# Altium integrated library Renesas Microcontroller M16C.IntLib: 423 symbols (part 11 of 30)
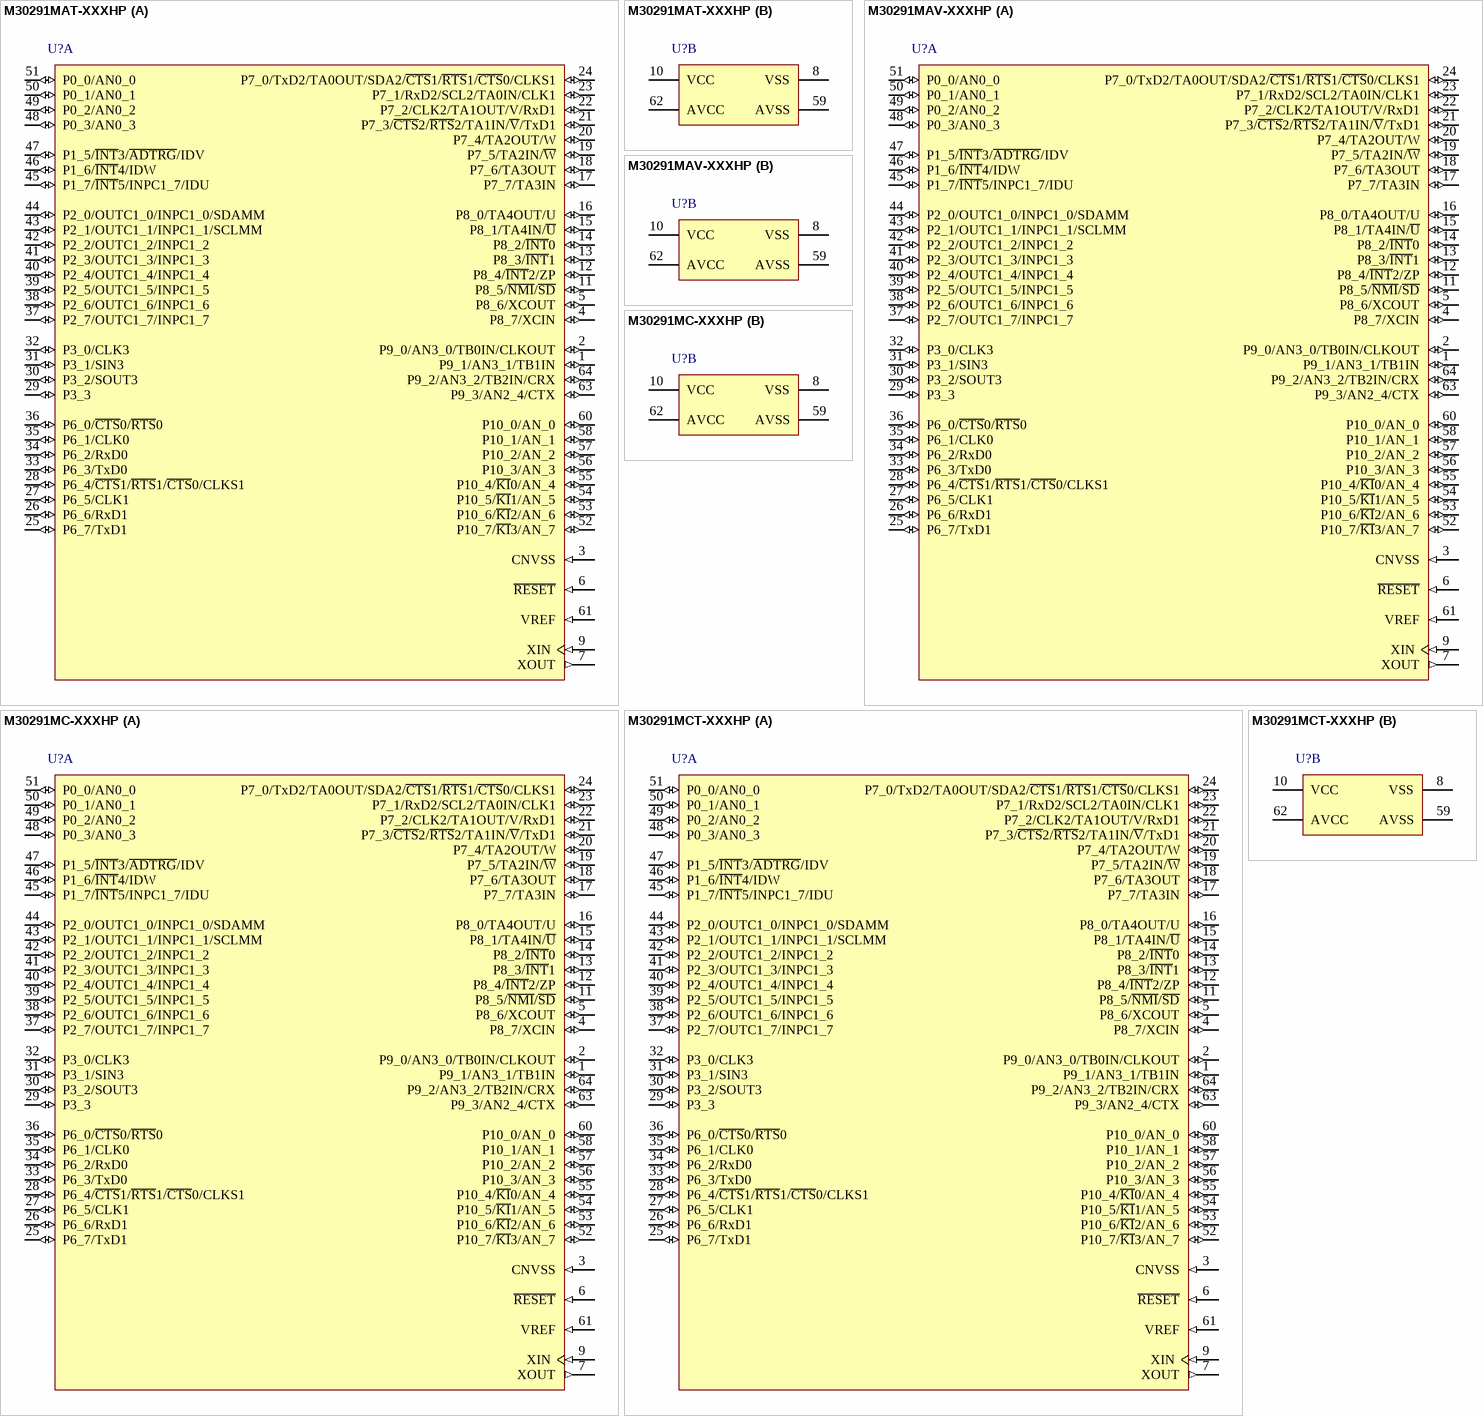
[diagram p196: symbols M30291MAT-XXXHP to M30291MCT-XXXHP]

## M30291MAT-XXXHP
designator U?
Mask ROM M16C/Tiny Series, 29 Group MCU, 96K ROM, 8K RAM, 64-pin QFP, Version T; Note: Set bits PACR2 to PACR0 in PACR register.  If PACR register isn't set up, input & output function of some pins disabled.; Published: 28-Aug-2009; DatasheetVersion: Rev.1.12, Mar-2007; PackageVersion: Sep-2005; PackageReference: PLQP0064KB-A; Publisher: Altium Limited; PackageDescription: 64-Pin Plastic Low Profile QFP, 10 x 10 x 1.4 mm Body, 0.5 mm Pitch; Code_JEITA: P-LQFP64-10x10-0.50; Code_IPC: SQFP50P1200X1200-64; ComponentLink1Description: Manufacturer Link; ComponentLink1URL: http://sg.renesas.com/fmwk.jsp?cnt=m16c_family_landing.jsp&fp=/products/mpumcu/m16c_family/; ComponentLink2Description: Datasheet; ComponentLink2URL: http://documentation.renesas.com/eng/products/mpumcu/rej09b0101_16c29hm.pdf; ComponentLink3Description: Packaging Specification; ComponentLink3URL: http://sg.renesas.com/media/products/common_info/package/pdf/ic/code/plqp0064kb_a.pdf
footprint PLQP0064KB-A_N (Shrink QFP, 64-Leads, Body 10x10mm, Pitch 0.5mm, IPC Medium Density)
footprint PLQP0064KB-A_L (Shrink QFP, 64-Leads, Body 10x10mm, Pitch 0.5mm, IPC High Density)
footprint PLQP0064KB-A_M (Shrink QFP, 64-Leads, Body 10x10mm, Pitch 0.5mm, IPC Low Density)
part A pins: 1 P9_1/AN3_1/TB1IN (io), 2 P9_0/AN3_0/TB0IN/CLKOUT (io), 3 CNVSS (in), 4 P8_7/XCIN (io), 5 P8_6/XCOUT (io), 6 ~{RESET} (in), 7 XOUT (out), 9 XIN (in), 11 P8_5/~{NMI}/~{SD} (io), 12 P8_4/~{INT}2/ZP (io), 13 P8_3/~{INT}1 (io), 14 P8_2/~{INT}0 (io), 15 P8_1/TA4IN/~{U} (io), 16 P8_0/TA4OUT/U (io), 17 P7_7/TA3IN (io), 18 P7_6/TA3OUT (io), 19 P7_5/TA2IN/~{W} (io), 20 P7_4/TA2OUT/W (io), 21 P7_3/~{CTS}2/~{RTS}2/TA1IN/~{V}/TxD1 (io), 22 P7_2/CLK2/TA1OUT/V/RxD1 (io), 23 P7_1/RxD2/SCL2/TA0IN/CLK1 (io), 24 P7_0/TxD2/TA0OUT/SDA2/~{CTS}1/~{RTS}1/~{CTS}0/CLKS1 (io), 25 P6_7/TxD1 (io), 26 P6_6/RxD1 (io), 27 P6_5/CLK1 (io), 28 P6_4/~{CTS}1/~{RTS}1/~{CTS}0/CLKS1 (io), 29 P3_3 (io), 30 P3_2/SOUT3 (io), 31 P3_1/SIN3 (io), 32 P3_0/CLK3 (io), 33 P6_3/TxD0 (io), 34 P6_2/RxD0 (io), 35 P6_1/CLK0 (io), 36 P6_0/~{CTS}0/~{RTS}0 (io), 37 P2_7/OUTC1_7/INPC1_7 (io), 38 P2_6/OUTC1_6/INPC1_6 (io), 39 P2_5/OUTC1_5/INPC1_5 (io), 40 P2_4/OUTC1_4/INPC1_4 (io), 41 P2_3/OUTC1_3/INPC1_3 (io), 42 P2_2/OUTC1_2/INPC1_2 (io), 43 P2_1/OUTC1_1/INPC1_1/SCLMM (io), 44 P2_0/OUTC1_0/INPC1_0/SDAMM (io), 45 P1_7/~{INT}5/INPC1_7/IDU (io), 46 P1_6/~{INT}4/IDW (io), 47 P1_5/~{INT}3/~{ADTRG}/IDV (io), 48 P0_3/AN0_3 (io), 49 P0_2/AN0_2 (io), 50 P0_1/AN0_1 (io), 51 P0_0/AN0_0 (io), 52 P10_7/~{KI}3/AN_7 (io), 53 P10_6/~{KI}2/AN_6 (io), 54 P10_5/~{KI}1/AN_5 (io), 55 P10_4/~{KI}0/AN_4 (io), 56 P10_3/AN_3 (io), 57 P10_2/AN_2 (io), 58 P10_1/AN_1 (io), 60 P10_0/AN_0 (io), 61 VREF (in), 63 P9_3/AN2_4/CTX (io), 64 P9_2/AN3_2/TB2IN/CRX (io)
part B pins: 8 VSS (power), 10 VCC (power), 59 AVSS (power), 62 AVCC (power)

## M30291MAV-XXXHP
designator U?
Mask ROM M16C/Tiny Series, 29 Group MCU, 96K ROM, 8K RAM, 64-pin QFP, Version V; Note: Set bits PACR2 to PACR0 in PACR register.  If PACR register isn't set up, input & output function of some pins disabled.; Published: 28-Aug-2009; DatasheetVersion: Rev.1.12, Mar-2007; PackageVersion: Sep-2005; PackageReference: PLQP0064KB-A; Publisher: Altium Limited; PackageDescription: 64-Pin Plastic Low Profile QFP, 10 x 10 x 1.4 mm Body, 0.5 mm Pitch; Code_JEITA: P-LQFP64-10x10-0.50; Code_IPC: SQFP50P1200X1200-64; ComponentLink1Description: Manufacturer Link; ComponentLink1URL: http://sg.renesas.com/fmwk.jsp?cnt=m16c_family_landing.jsp&fp=/products/mpumcu/m16c_family/; ComponentLink2Description: Datasheet; ComponentLink2URL: http://documentation.renesas.com/eng/products/mpumcu/rej09b0101_16c29hm.pdf; ComponentLink3Description: Packaging Specification; ComponentLink3URL: http://sg.renesas.com/media/products/common_info/package/pdf/ic/code/plqp0064kb_a.pdf
footprint PLQP0064KB-A_N (Shrink QFP, 64-Leads, Body 10x10mm, Pitch 0.5mm, IPC Medium Density)
footprint PLQP0064KB-A_L (Shrink QFP, 64-Leads, Body 10x10mm, Pitch 0.5mm, IPC High Density)
footprint PLQP0064KB-A_M (Shrink QFP, 64-Leads, Body 10x10mm, Pitch 0.5mm, IPC Low Density)
part A pins: 1 P9_1/AN3_1/TB1IN (io), 2 P9_0/AN3_0/TB0IN/CLKOUT (io), 3 CNVSS (in), 4 P8_7/XCIN (io), 5 P8_6/XCOUT (io), 6 ~{RESET} (in), 7 XOUT (out), 9 XIN (in), 11 P8_5/~{NMI}/~{SD} (io), 12 P8_4/~{INT}2/ZP (io), 13 P8_3/~{INT}1 (io), 14 P8_2/~{INT}0 (io), 15 P8_1/TA4IN/~{U} (io), 16 P8_0/TA4OUT/U (io), 17 P7_7/TA3IN (io), 18 P7_6/TA3OUT (io), 19 P7_5/TA2IN/~{W} (io), 20 P7_4/TA2OUT/W (io), 21 P7_3/~{CTS}2/~{RTS}2/TA1IN/~{V}/TxD1 (io), 22 P7_2/CLK2/TA1OUT/V/RxD1 (io), 23 P7_1/RxD2/SCL2/TA0IN/CLK1 (io), 24 P7_0/TxD2/TA0OUT/SDA2/~{CTS}1/~{RTS}1/~{CTS}0/CLKS1 (io), 25 P6_7/TxD1 (io), 26 P6_6/RxD1 (io), 27 P6_5/CLK1 (io), 28 P6_4/~{CTS}1/~{RTS}1/~{CTS}0/CLKS1 (io), 29 P3_3 (io), 30 P3_2/SOUT3 (io), 31 P3_1/SIN3 (io), 32 P3_0/CLK3 (io), 33 P6_3/TxD0 (io), 34 P6_2/RxD0 (io), 35 P6_1/CLK0 (io), 36 P6_0/~{CTS}0/~{RTS}0 (io), 37 P2_7/OUTC1_7/INPC1_7 (io), 38 P2_6/OUTC1_6/INPC1_6 (io), 39 P2_5/OUTC1_5/INPC1_5 (io), 40 P2_4/OUTC1_4/INPC1_4 (io), 41 P2_3/OUTC1_3/INPC1_3 (io), 42 P2_2/OUTC1_2/INPC1_2 (io), 43 P2_1/OUTC1_1/INPC1_1/SCLMM (io), 44 P2_0/OUTC1_0/INPC1_0/SDAMM (io), 45 P1_7/~{INT}5/INPC1_7/IDU (io), 46 P1_6/~{INT}4/IDW (io), 47 P1_5/~{INT}3/~{ADTRG}/IDV (io), 48 P0_3/AN0_3 (io), 49 P0_2/AN0_2 (io), 50 P0_1/AN0_1 (io), 51 P0_0/AN0_0 (io), 52 P10_7/~{KI}3/AN_7 (io), 53 P10_6/~{KI}2/AN_6 (io), 54 P10_5/~{KI}1/AN_5 (io), 55 P10_4/~{KI}0/AN_4 (io), 56 P10_3/AN_3 (io), 57 P10_2/AN_2 (io), 58 P10_1/AN_1 (io), 60 P10_0/AN_0 (io), 61 VREF (in), 63 P9_3/AN2_4/CTX (io), 64 P9_2/AN3_2/TB2IN/CRX (io)
part B pins: 8 VSS (power), 10 VCC (power), 59 AVSS (power), 62 AVCC (power)

## M30291MC-XXXHP
designator U?
Mask ROM M16C/Tiny Series, 29 Group MCU, 128K ROM, 12K RAM, 64-pin QFP; Note: Set bits PACR2 to PACR0 in PACR register.  If PACR register isn't set up, input & output function of some pins disabled.; Published: 28-Aug-2009; DatasheetVersion: Rev.1.12, Mar-2007; PackageVersion: Sep-2005; PackageReference: PLQP0064KB-A; Publisher: Altium Limited; PackageDescription: 64-Pin Plastic Low Profile QFP, 10 x 10 x 1.4 mm Body, 0.5 mm Pitch; Code_JEITA: P-LQFP64-10x10-0.50; Code_IPC: SQFP50P1200X1200-64; ComponentLink1Description: Manufacturer Link; ComponentLink1URL: http://sg.renesas.com/fmwk.jsp?cnt=m16c_family_landing.jsp&fp=/products/mpumcu/m16c_family/; ComponentLink2Description: Datasheet; ComponentLink2URL: http://documentation.renesas.com/eng/products/mpumcu/rej09b0101_16c29hm.pdf; ComponentLink3Description: Packaging Specification; ComponentLink3URL: http://sg.renesas.com/media/products/common_info/package/pdf/ic/code/plqp0064kb_a.pdf
footprint PLQP0064KB-A_N (Shrink QFP, 64-Leads, Body 10x10mm, Pitch 0.5mm, IPC Medium Density)
footprint PLQP0064KB-A_L (Shrink QFP, 64-Leads, Body 10x10mm, Pitch 0.5mm, IPC High Density)
footprint PLQP0064KB-A_M (Shrink QFP, 64-Leads, Body 10x10mm, Pitch 0.5mm, IPC Low Density)
part A pins: 1 P9_1/AN3_1/TB1IN (io), 2 P9_0/AN3_0/TB0IN/CLKOUT (io), 3 CNVSS (in), 4 P8_7/XCIN (io), 5 P8_6/XCOUT (io), 6 ~{RESET} (in), 7 XOUT (out), 9 XIN (in), 11 P8_5/~{NMI}/~{SD} (io), 12 P8_4/~{INT}2/ZP (io), 13 P8_3/~{INT}1 (io), 14 P8_2/~{INT}0 (io), 15 P8_1/TA4IN/~{U} (io), 16 P8_0/TA4OUT/U (io), 17 P7_7/TA3IN (io), 18 P7_6/TA3OUT (io), 19 P7_5/TA2IN/~{W} (io), 20 P7_4/TA2OUT/W (io), 21 P7_3/~{CTS}2/~{RTS}2/TA1IN/~{V}/TxD1 (io), 22 P7_2/CLK2/TA1OUT/V/RxD1 (io), 23 P7_1/RxD2/SCL2/TA0IN/CLK1 (io), 24 P7_0/TxD2/TA0OUT/SDA2/~{CTS}1/~{RTS}1/~{CTS}0/CLKS1 (io), 25 P6_7/TxD1 (io), 26 P6_6/RxD1 (io), 27 P6_5/CLK1 (io), 28 P6_4/~{CTS}1/~{RTS}1/~{CTS}0/CLKS1 (io), 29 P3_3 (io), 30 P3_2/SOUT3 (io), 31 P3_1/SIN3 (io), 32 P3_0/CLK3 (io), 33 P6_3/TxD0 (io), 34 P6_2/RxD0 (io), 35 P6_1/CLK0 (io), 36 P6_0/~{CTS}0/~{RTS}0 (io), 37 P2_7/OUTC1_7/INPC1_7 (io), 38 P2_6/OUTC1_6/INPC1_6 (io), 39 P2_5/OUTC1_5/INPC1_5 (io), 40 P2_4/OUTC1_4/INPC1_4 (io), 41 P2_3/OUTC1_3/INPC1_3 (io), 42 P2_2/OUTC1_2/INPC1_2 (io), 43 P2_1/OUTC1_1/INPC1_1/SCLMM (io), 44 P2_0/OUTC1_0/INPC1_0/SDAMM (io), 45 P1_7/~{INT}5/INPC1_7/IDU (io), 46 P1_6/~{INT}4/IDW (io), 47 P1_5/~{INT}3/~{ADTRG}/IDV (io), 48 P0_3/AN0_3 (io), 49 P0_2/AN0_2 (io), 50 P0_1/AN0_1 (io), 51 P0_0/AN0_0 (io), 52 P10_7/~{KI}3/AN_7 (io), 53 P10_6/~{KI}2/AN_6 (io), 54 P10_5/~{KI}1/AN_5 (io), 55 P10_4/~{KI}0/AN_4 (io), 56 P10_3/AN_3 (io), 57 P10_2/AN_2 (io), 58 P10_1/AN_1 (io), 60 P10_0/AN_0 (io), 61 VREF (in), 63 P9_3/AN2_4/CTX (io), 64 P9_2/AN3_2/TB2IN/CRX (io)
part B pins: 8 VSS (power), 10 VCC (power), 59 AVSS (power), 62 AVCC (power)

## M30291MCT-XXXHP
designator U?
Mask ROM M16C/Tiny Series, 29 Group MCU, 128K ROM, 12K RAM, 64-pin QFP, Version T; Note: Set bits PACR2 to PACR0 in PACR register.  If PACR register isn't set up, input & output function of some pins disabled.; Published: 28-Aug-2009; DatasheetVersion: Rev.1.12, Mar-2007; PackageVersion: Sep-2005; PackageReference: PLQP0064KB-A; Publisher: Altium Limited; PackageDescription: 64-Pin Plastic Low Profile QFP, 10 x 10 x 1.4 mm Body, 0.5 mm Pitch; Code_JEITA: P-LQFP64-10x10-0.50; Code_IPC: SQFP50P1200X1200-64; ComponentLink1Description: Manufacturer Link; ComponentLink1URL: http://sg.renesas.com/fmwk.jsp?cnt=m16c_family_landing.jsp&fp=/products/mpumcu/m16c_family/; ComponentLink2Description: Datasheet; ComponentLink2URL: http://documentation.renesas.com/eng/products/mpumcu/rej09b0101_16c29hm.pdf; ComponentLink3Description: Packaging Specification; ComponentLink3URL: http://sg.renesas.com/media/products/common_info/package/pdf/ic/code/plqp0064kb_a.pdf
footprint PLQP0064KB-A_N (Shrink QFP, 64-Leads, Body 10x10mm, Pitch 0.5mm, IPC Medium Density)
footprint PLQP0064KB-A_L (Shrink QFP, 64-Leads, Body 10x10mm, Pitch 0.5mm, IPC High Density)
footprint PLQP0064KB-A_M (Shrink QFP, 64-Leads, Body 10x10mm, Pitch 0.5mm, IPC Low Density)
part A pins: 1 P9_1/AN3_1/TB1IN (io), 2 P9_0/AN3_0/TB0IN/CLKOUT (io), 3 CNVSS (in), 4 P8_7/XCIN (io), 5 P8_6/XCOUT (io), 6 ~{RESET} (in), 7 XOUT (out), 9 XIN (in), 11 P8_5/~{NMI}/~{SD} (io), 12 P8_4/~{INT}2/ZP (io), 13 P8_3/~{INT}1 (io), 14 P8_2/~{INT}0 (io), 15 P8_1/TA4IN/~{U} (io), 16 P8_0/TA4OUT/U (io), 17 P7_7/TA3IN (io), 18 P7_6/TA3OUT (io), 19 P7_5/TA2IN/~{W} (io), 20 P7_4/TA2OUT/W (io), 21 P7_3/~{CTS}2/~{RTS}2/TA1IN/~{V}/TxD1 (io), 22 P7_2/CLK2/TA1OUT/V/RxD1 (io), 23 P7_1/RxD2/SCL2/TA0IN/CLK1 (io), 24 P7_0/TxD2/TA0OUT/SDA2/~{CTS}1/~{RTS}1/~{CTS}0/CLKS1 (io), 25 P6_7/TxD1 (io), 26 P6_6/RxD1 (io), 27 P6_5/CLK1 (io), 28 P6_4/~{CTS}1/~{RTS}1/~{CTS}0/CLKS1 (io), 29 P3_3 (io), 30 P3_2/SOUT3 (io), 31 P3_1/SIN3 (io), 32 P3_0/CLK3 (io), 33 P6_3/TxD0 (io), 34 P6_2/RxD0 (io), 35 P6_1/CLK0 (io), 36 P6_0/~{CTS}0/~{RTS}0 (io), 37 P2_7/OUTC1_7/INPC1_7 (io), 38 P2_6/OUTC1_6/INPC1_6 (io), 39 P2_5/OUTC1_5/INPC1_5 (io), 40 P2_4/OUTC1_4/INPC1_4 (io), 41 P2_3/OUTC1_3/INPC1_3 (io), 42 P2_2/OUTC1_2/INPC1_2 (io), 43 P2_1/OUTC1_1/INPC1_1/SCLMM (io), 44 P2_0/OUTC1_0/INPC1_0/SDAMM (io), 45 P1_7/~{INT}5/INPC1_7/IDU (io), 46 P1_6/~{INT}4/IDW (io), 47 P1_5/~{INT}3/~{ADTRG}/IDV (io), 48 P0_3/AN0_3 (io), 49 P0_2/AN0_2 (io), 50 P0_1/AN0_1 (io), 51 P0_0/AN0_0 (io), 52 P10_7/~{KI}3/AN_7 (io), 53 P10_6/~{KI}2/AN_6 (io), 54 P10_5/~{KI}1/AN_5 (io), 55 P10_4/~{KI}0/AN_4 (io), 56 P10_3/AN_3 (io), 57 P10_2/AN_2 (io), 58 P10_1/AN_1 (io), 60 P10_0/AN_0 (io), 61 VREF (in), 63 P9_3/AN2_4/CTX (io), 64 P9_2/AN3_2/TB2IN/CRX (io)
part B pins: 8 VSS (power), 10 VCC (power), 59 AVSS (power), 62 AVCC (power)

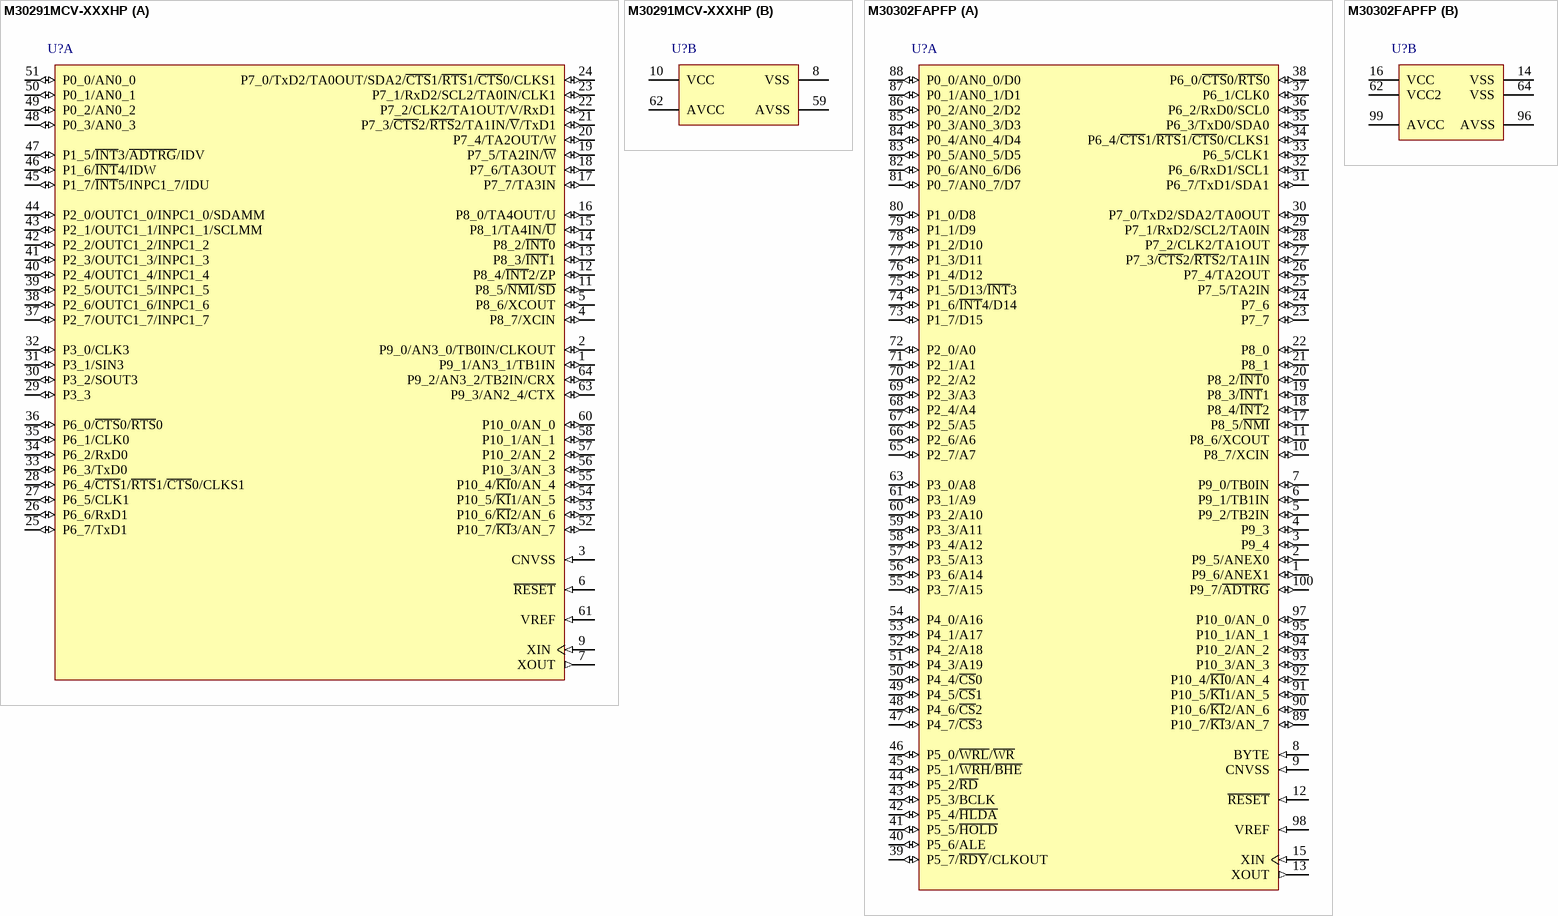
[diagram p57: symbols M30291MCV-XXXHP to M30302FAPFP]

## M30291MCV-XXXHP
designator U?
Mask ROM M16C/Tiny Series, 29 Group MCU, 128K ROM, 12K RAM, 64-pin QFP, Version V; Note: Set bits PACR2 to PACR0 in PACR register.  If PACR register isn't set up, input & output function of some pins disabled.; Published: 28-Aug-2009; DatasheetVersion: Rev.1.12, Mar-2007; PackageVersion: Sep-2005; PackageReference: PLQP0064KB-A; Publisher: Altium Limited; PackageDescription: 64-Pin Plastic Low Profile QFP, 10 x 10 x 1.4 mm Body, 0.5 mm Pitch; Code_JEITA: P-LQFP64-10x10-0.50; Code_IPC: SQFP50P1200X1200-64; ComponentLink1Description: Manufacturer Link; ComponentLink1URL: http://sg.renesas.com/fmwk.jsp?cnt=m16c_family_landing.jsp&fp=/products/mpumcu/m16c_family/; ComponentLink2Description: Datasheet; ComponentLink2URL: http://documentation.renesas.com/eng/products/mpumcu/rej09b0101_16c29hm.pdf; ComponentLink3Description: Packaging Specification; ComponentLink3URL: http://sg.renesas.com/media/products/common_info/package/pdf/ic/code/plqp0064kb_a.pdf
footprint PLQP0064KB-A_N (Shrink QFP, 64-Leads, Body 10x10mm, Pitch 0.5mm, IPC Medium Density)
footprint PLQP0064KB-A_L (Shrink QFP, 64-Leads, Body 10x10mm, Pitch 0.5mm, IPC High Density)
footprint PLQP0064KB-A_M (Shrink QFP, 64-Leads, Body 10x10mm, Pitch 0.5mm, IPC Low Density)
part A pins: 1 P9_1/AN3_1/TB1IN (io), 2 P9_0/AN3_0/TB0IN/CLKOUT (io), 3 CNVSS (in), 4 P8_7/XCIN (io), 5 P8_6/XCOUT (io), 6 ~{RESET} (in), 7 XOUT (out), 9 XIN (in), 11 P8_5/~{NMI}/~{SD} (io), 12 P8_4/~{INT}2/ZP (io), 13 P8_3/~{INT}1 (io), 14 P8_2/~{INT}0 (io), 15 P8_1/TA4IN/~{U} (io), 16 P8_0/TA4OUT/U (io), 17 P7_7/TA3IN (io), 18 P7_6/TA3OUT (io), 19 P7_5/TA2IN/~{W} (io), 20 P7_4/TA2OUT/W (io), 21 P7_3/~{CTS}2/~{RTS}2/TA1IN/~{V}/TxD1 (io), 22 P7_2/CLK2/TA1OUT/V/RxD1 (io), 23 P7_1/RxD2/SCL2/TA0IN/CLK1 (io), 24 P7_0/TxD2/TA0OUT/SDA2/~{CTS}1/~{RTS}1/~{CTS}0/CLKS1 (io), 25 P6_7/TxD1 (io), 26 P6_6/RxD1 (io), 27 P6_5/CLK1 (io), 28 P6_4/~{CTS}1/~{RTS}1/~{CTS}0/CLKS1 (io), 29 P3_3 (io), 30 P3_2/SOUT3 (io), 31 P3_1/SIN3 (io), 32 P3_0/CLK3 (io), 33 P6_3/TxD0 (io), 34 P6_2/RxD0 (io), 35 P6_1/CLK0 (io), 36 P6_0/~{CTS}0/~{RTS}0 (io), 37 P2_7/OUTC1_7/INPC1_7 (io), 38 P2_6/OUTC1_6/INPC1_6 (io), 39 P2_5/OUTC1_5/INPC1_5 (io), 40 P2_4/OUTC1_4/INPC1_4 (io), 41 P2_3/OUTC1_3/INPC1_3 (io), 42 P2_2/OUTC1_2/INPC1_2 (io), 43 P2_1/OUTC1_1/INPC1_1/SCLMM (io), 44 P2_0/OUTC1_0/INPC1_0/SDAMM (io), 45 P1_7/~{INT}5/INPC1_7/IDU (io), 46 P1_6/~{INT}4/IDW (io), 47 P1_5/~{INT}3/~{ADTRG}/IDV (io), 48 P0_3/AN0_3 (io), 49 P0_2/AN0_2 (io), 50 P0_1/AN0_1 (io), 51 P0_0/AN0_0 (io), 52 P10_7/~{KI}3/AN_7 (io), 53 P10_6/~{KI}2/AN_6 (io), 54 P10_5/~{KI}1/AN_5 (io), 55 P10_4/~{KI}0/AN_4 (io), 56 P10_3/AN_3 (io), 57 P10_2/AN_2 (io), 58 P10_1/AN_1 (io), 60 P10_0/AN_0 (io), 61 VREF (in), 63 P9_3/AN2_4/CTX (io), 64 P9_2/AN3_2/TB2IN/CRX (io)
part B pins: 8 VSS (power), 10 VCC (power), 59 AVSS (power), 62 AVCC (power)

## M30302FAPFP
designator U?
Flash Memory M16C/30 Series, 30P Group MCU, 96K + 4K ROM, 5K RAM, 100-pin RQFP; Published: 28-Aug-2009; DatasheetVersion: Rev.1.22, Mar-2007; PackageVersion: Sep-2005; PackageReference: PRQP0100JB-A; Publisher: Altium Limited; PackageDescription: 100-Pin Plastic Quad Flat Pack, 20 x 14 x 2.8 mm Body, 0.65 mm Pitch; Code_JEITA: P-QFP100-14x20-0.65; ComponentLink1Description: Manufacturer Link; ComponentLink1URL: http://sg.renesas.com/fmwk.jsp?cnt=m16c_family_landing.jsp&fp=/products/mpumcu/m16c_family/; ComponentLink2Description: Datasheet; ComponentLink2URL: http://documentation.renesas.com/eng/products/mpumcu/rej09b0179_16c30phm.pdf; ComponentLink3Description: Packaging Specification; ComponentLink3URL: http://sg.renesas.com/media/products/common_info/package/pdf/ic/code/prqp0100jb_a.pdf
footprint PRQP0100JB-A_N (QFP, 100-Leads, Body 20x14mm, Pitch 0.65mm, IPC Medium Density)
footprint PRQP0100JB-A_L (QFP, 100-Leads, Body 20x14mm, Pitch 0.65mm, IPC High Density)
footprint PRQP0100JB-A_M (QFP, 100-Leads, Body 20x14mm, Pitch 0.65mm, IPC Low Density)
part A pins: 1 P9_6/ANEX1 (io), 2 P9_5/ANEX0 (io), 3 P9_4 (io), 4 P9_3 (io), 5 P9_2/TB2IN (io), 6 P9_1/TB1IN (io), 7 P9_0/TB0IN (io), 8 BYTE (in), 9 CNVSS (in), 10 P8_7/XCIN (io), 11 P8_6/XCOUT (io), 12 ~{RESET} (in), 13 XOUT (out), 15 XIN (in), 17 P8_5/~{NMI} (io), 18 P8_4/~{INT}2 (io), 19 P8_3/~{INT}1 (io), 20 P8_2/~{INT}0 (io), 21 P8_1 (io), 22 P8_0 (io), 23 P7_7 (io), 24 P7_6 (io), 25 P7_5/TA2IN (io), 26 P7_4/TA2OUT (io), 27 P7_3/~{CTS}2/~{RTS}2/TA1IN (io), 28 P7_2/CLK2/TA1OUT (io), 29 P7_1/RxD2/SCL2/TA0IN (io), 30 P7_0/TxD2/SDA2/TA0OUT (io), 31 P6_7/TxD1/SDA1 (io), 32 P6_6/RxD1/SCL1 (io), 33 P6_5/CLK1 (io), 34 P6_4/~{CTS}1/~{RTS}1/~{CTS}0/CLKS1 (io), 35 P6_3/TxD0/SDA0 (io), 36 P6_2/RxD0/SCL0 (io), 37 P6_1/CLK0 (io), 38 P6_0/~{CTS}0/~{RTS}0 (io), 39 P5_7/~{RDY}/CLKOUT (io), 40 P5_6/ALE (io), 41 P5_5/~{HOLD} (io), 42 P5_4/~{HLDA} (io), 43 P5_3/BCLK (io), 44 P5_2/~{RD} (io), 45 P5_1/~{WRH}/~{BHE} (io), 46 P5_0/~{WRL}/~{WR} (io), 47 P4_7/~{CS}3 (io), 48 P4_6/~{CS}2 (io), 49 P4_5/~{CS}1 (io), 50 P4_4/~{CS}0 (io), 51 P4_3/A19 (io), 52 P4_2/A18 (io), 53 P4_1/A17 (io), 54 P4_0/A16 (io), 55 P3_7/A15 (io), 56 P3_6/A14 (io), 57 P3_5/A13 (io), 58 P3_4/A12 (io), 59 P3_3/A11 (io), 60 P3_2/A10 (io), 61 P3_1/A9 (io), 63 P3_0/A8 (io), 65 P2_7/A7 (io), 66 P2_6/A6 (io), 67 P2_5/A5 (io), 68 P2_4/A4 (io), 69 P2_3/A3 (io), 70 P2_2/A2 (io), 71 P2_1/A1 (io), 72 P2_0/A0 (io), 73 P1_7/D15 (io), 74 P1_6/~{INT}4/D14 (io), 75 P1_5/D13/~{INT}3 (io), 76 P1_4/D12 (io), 77 P1_3/D11 (io), 78 P1_2/D10 (io), 79 P1_1/D9 (io), 80 P1_0/D8 (io), 81 P0_7/AN0_7/D7 (io), 82 P0_6/AN0_6/D6 (io), 83 P0_5/AN0_5/D5 (io), 84 P0_4/AN0_4/D4 (io), 85 P0_3/AN0_3/D3 (io), 86 P0_2/AN0_2/D2 (io), 87 P0_1/AN0_1/D1 (io), 88 P0_0/AN0_0/D0 (io), 89 P10_7/~{KI}3/AN_7 (io), 90 P10_6/~{KI}2/AN_6 (io), 91 P10_5/~{KI}1/AN_5 (io), 92 P10_4/~{KI}0/AN_4 (io), 93 P10_3/AN_3 (io), 94 P10_2/AN_2 (io), 95 P10_1/AN_1 (io), 97 P10_0/AN_0 (io), 98 VREF (in), 100 P9_7/~{ADTRG} (io)
part B pins: 14 VSS (power), 16 VCC (power), 62 VCC2 (power), 64 VSS (power), 96 AVSS (power), 99 AVCC (power)

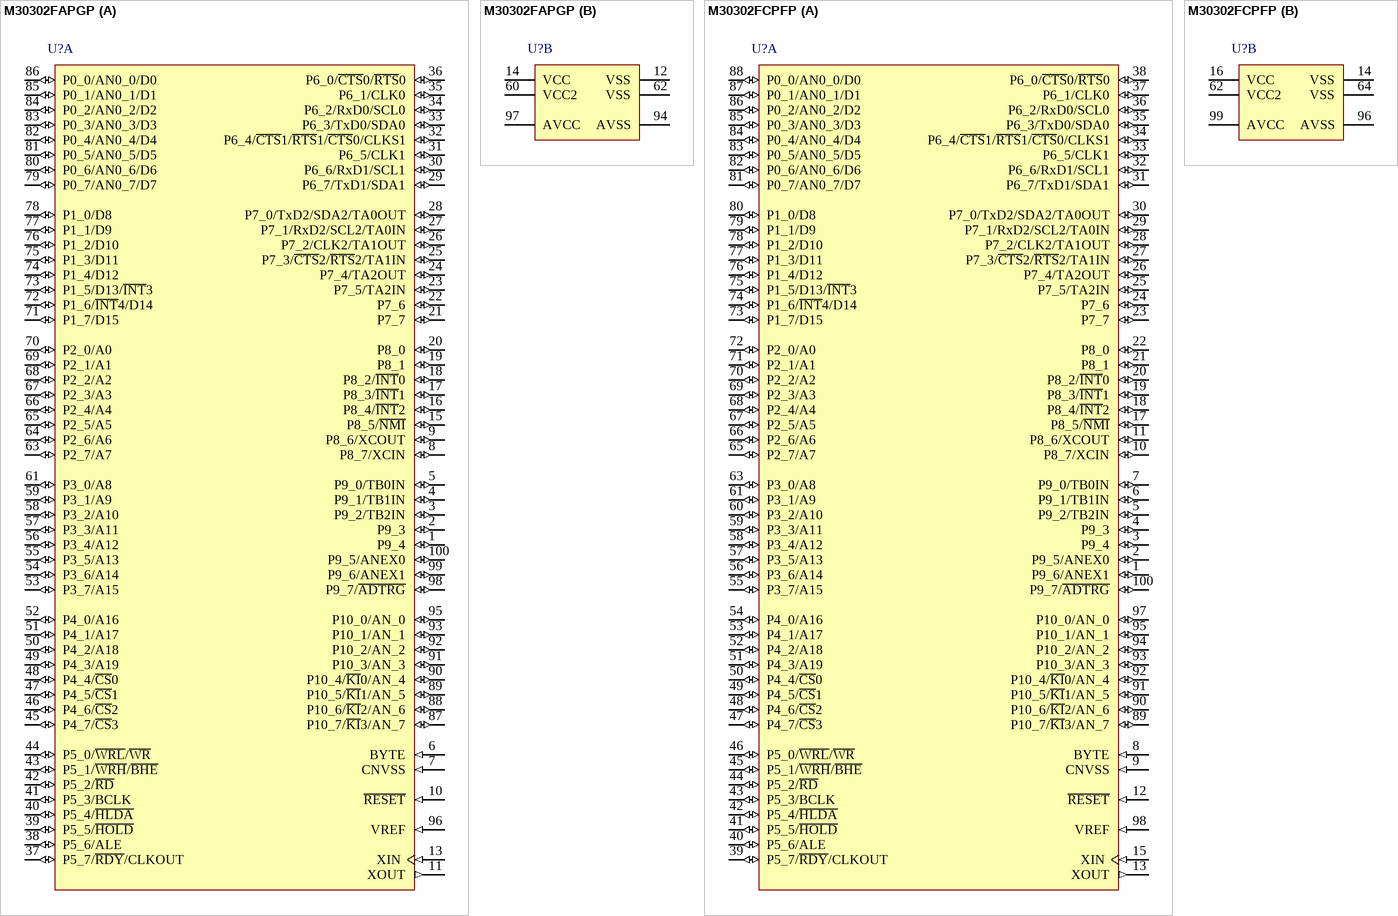
[diagram p58: symbols M30302FAPGP to M30302FCPFP]

## M30302FAPGP
designator U?
Flash Memory M16C/30 Series, 30P Group MCU, 96K + 4K ROM, 5K RAM, 100-pin LQFP; Published: 28-Aug-2009; DatasheetVersion: Rev.1.22, Mar-2007; PackageVersion: Sep-2005; PackageReference: PLQP0100KB-A; Publisher: Altium Limited; PackageDescription: 100-Pin Plastic Low Profile QFP, 14 x 14 x 1.4 mm Body, 0.5 mm Pitch; Code_JEITA: P-LQFP100-14x14-0.50; Code_IPC: SQFP50P1600X1600-100; ComponentLink1Description: Manufacturer Link; ComponentLink1URL: http://sg.renesas.com/fmwk.jsp?cnt=m16c_family_landing.jsp&fp=/products/mpumcu/m16c_family/; ComponentLink2Description: Datasheet; ComponentLink2URL: http://documentation.renesas.com/eng/products/mpumcu/rej09b0179_16c30phm.pdf; ComponentLink3Description: Packaging Specification; ComponentLink3URL: http://sg.renesas.com/media/products/common_info/package/pdf/ic/code/plqp0100kb_a.pdf
footprint PLQP0100KB-A_N (Shrink QFP, 100-Leads, Body 14x14mm, Pitch 0.5mm, IPC Medium Density)
footprint PLQP0100KB-A_L (Shrink QFP, 100-Leads, Body 14x14mm, Pitch 0.5mm, IPC High Density)
footprint PLQP0100KB-A_M (Shrink QFP, 100-Leads, Body 14x14mm, Pitch 0.5mm, IPC Low Density)
part A pins: 1 P9_4 (io), 2 P9_3 (io), 3 P9_2/TB2IN (io), 4 P9_1/TB1IN (io), 5 P9_0/TB0IN (io), 6 BYTE (in), 7 CNVSS (in), 8 P8_7/XCIN (io), 9 P8_6/XCOUT (io), 10 ~{RESET} (in), 11 XOUT (out), 13 XIN (in), 15 P8_5/~{NMI} (io), 16 P8_4/~{INT}2 (io), 17 P8_3/~{INT}1 (io), 18 P8_2/~{INT}0 (io), 19 P8_1 (io), 20 P8_0 (io), 21 P7_7 (io), 22 P7_6 (io), 23 P7_5/TA2IN (io), 24 P7_4/TA2OUT (io), 25 P7_3/~{CTS}2/~{RTS}2/TA1IN (io), 26 P7_2/CLK2/TA1OUT (io), 27 P7_1/RxD2/SCL2/TA0IN (io), 28 P7_0/TxD2/SDA2/TA0OUT (io), 29 P6_7/TxD1/SDA1 (io), 30 P6_6/RxD1/SCL1 (io), 31 P6_5/CLK1 (io), 32 P6_4/~{CTS}1/~{RTS}1/~{CTS}0/CLKS1 (io), 33 P6_3/TxD0/SDA0 (io), 34 P6_2/RxD0/SCL0 (io), 35 P6_1/CLK0 (io), 36 P6_0/~{CTS}0/~{RTS}0 (io), 37 P5_7/~{RDY}/CLKOUT (io), 38 P5_6/ALE (io), 39 P5_5/~{HOLD} (io), 40 P5_4/~{HLDA} (io), 41 P5_3/BCLK (io), 42 P5_2/~{RD} (io), 43 P5_1/~{WRH}/~{BHE} (io), 44 P5_0/~{WRL}/~{WR} (io), 45 P4_7/~{CS}3 (io), 46 P4_6/~{CS}2 (io), 47 P4_5/~{CS}1 (io), 48 P4_4/~{CS}0 (io), 49 P4_3/A19 (io), 50 P4_2/A18 (io), 51 P4_1/A17 (io), 52 P4_0/A16 (io), 53 P3_7/A15 (io), 54 P3_6/A14 (io), 55 P3_5/A13 (io), 56 P3_4/A12 (io), 57 P3_3/A11 (io), 58 P3_2/A10 (io), 59 P3_1/A9 (io), 61 P3_0/A8 (io), 63 P2_7/A7 (io), 64 P2_6/A6 (io), 65 P2_5/A5 (io), 66 P2_4/A4 (io), 67 P2_3/A3 (io), 68 P2_2/A2 (io), 69 P2_1/A1 (io), 70 P2_0/A0 (io), 71 P1_7/D15 (io), 72 P1_6/~{INT}4/D14 (io), 73 P1_5/D13/~{INT}3 (io), 74 P1_4/D12 (io), 75 P1_3/D11 (io), 76 P1_2/D10 (io), 77 P1_1/D9 (io), 78 P1_0/D8 (io), 79 P0_7/AN0_7/D7 (io), 80 P0_6/AN0_6/D6 (io), 81 P0_5/AN0_5/D5 (io), 82 P0_4/AN0_4/D4 (io), 83 P0_3/AN0_3/D3 (io), 84 P0_2/AN0_2/D2 (io), 85 P0_1/AN0_1/D1 (io), 86 P0_0/AN0_0/D0 (io), 87 P10_7/~{KI}3/AN_7 (io), 88 P10_6/~{KI}2/AN_6 (io), 89 P10_5/~{KI}1/AN_5 (io), 90 P10_4/~{KI}0/AN_4 (io), 91 P10_3/AN_3 (io), 92 P10_2/AN_2 (io), 93 P10_1/AN_1 (io), 95 P10_0/AN_0 (io), 96 VREF (in), 98 P9_7/~{ADTRG} (io), 99 P9_6/ANEX1 (io), 100 P9_5/ANEX0 (io)
part B pins: 12 VSS (power), 14 VCC (power), 60 VCC2 (power), 62 VSS (power), 94 AVSS (power), 97 AVCC (power)

## M30302FCPFP
designator U?
Flash Memory M16C/30 Series, 30P Group MCU, 128K + 4K ROM, 5K RAM, 100-pin RQFP; Published: 28-Aug-2009; DatasheetVersion: Rev.1.22, Mar-2007; PackageVersion: Sep-2005; PackageReference: PRQP0100JB-A; Publisher: Altium Limited; PackageDescription: 100-Pin Plastic Quad Flat Pack, 20 x 14 x 2.8 mm Body, 0.65 mm Pitch; Code_JEITA: P-QFP100-14x20-0.65; ComponentLink1Description: Manufacturer Link; ComponentLink1URL: http://sg.renesas.com/fmwk.jsp?cnt=m16c_family_landing.jsp&fp=/products/mpumcu/m16c_family/; ComponentLink2Description: Datasheet; ComponentLink2URL: http://documentation.renesas.com/eng/products/mpumcu/rej09b0179_16c30phm.pdf; ComponentLink3Description: Packaging Specification; ComponentLink3URL: http://sg.renesas.com/media/products/common_info/package/pdf/ic/code/prqp0100jb_a.pdf
footprint PRQP0100JB-A_N (QFP, 100-Leads, Body 20x14mm, Pitch 0.65mm, IPC Medium Density)
footprint PRQP0100JB-A_L (QFP, 100-Leads, Body 20x14mm, Pitch 0.65mm, IPC High Density)
footprint PRQP0100JB-A_M (QFP, 100-Leads, Body 20x14mm, Pitch 0.65mm, IPC Low Density)
part A pins: 1 P9_6/ANEX1 (io), 2 P9_5/ANEX0 (io), 3 P9_4 (io), 4 P9_3 (io), 5 P9_2/TB2IN (io), 6 P9_1/TB1IN (io), 7 P9_0/TB0IN (io), 8 BYTE (in), 9 CNVSS (in), 10 P8_7/XCIN (io), 11 P8_6/XCOUT (io), 12 ~{RESET} (in), 13 XOUT (out), 15 XIN (in), 17 P8_5/~{NMI} (io), 18 P8_4/~{INT}2 (io), 19 P8_3/~{INT}1 (io), 20 P8_2/~{INT}0 (io), 21 P8_1 (io), 22 P8_0 (io), 23 P7_7 (io), 24 P7_6 (io), 25 P7_5/TA2IN (io), 26 P7_4/TA2OUT (io), 27 P7_3/~{CTS}2/~{RTS}2/TA1IN (io), 28 P7_2/CLK2/TA1OUT (io), 29 P7_1/RxD2/SCL2/TA0IN (io), 30 P7_0/TxD2/SDA2/TA0OUT (io), 31 P6_7/TxD1/SDA1 (io), 32 P6_6/RxD1/SCL1 (io), 33 P6_5/CLK1 (io), 34 P6_4/~{CTS}1/~{RTS}1/~{CTS}0/CLKS1 (io), 35 P6_3/TxD0/SDA0 (io), 36 P6_2/RxD0/SCL0 (io), 37 P6_1/CLK0 (io), 38 P6_0/~{CTS}0/~{RTS}0 (io), 39 P5_7/~{RDY}/CLKOUT (io), 40 P5_6/ALE (io), 41 P5_5/~{HOLD} (io), 42 P5_4/~{HLDA} (io), 43 P5_3/BCLK (io), 44 P5_2/~{RD} (io), 45 P5_1/~{WRH}/~{BHE} (io), 46 P5_0/~{WRL}/~{WR} (io), 47 P4_7/~{CS}3 (io), 48 P4_6/~{CS}2 (io), 49 P4_5/~{CS}1 (io), 50 P4_4/~{CS}0 (io), 51 P4_3/A19 (io), 52 P4_2/A18 (io), 53 P4_1/A17 (io), 54 P4_0/A16 (io), 55 P3_7/A15 (io), 56 P3_6/A14 (io), 57 P3_5/A13 (io), 58 P3_4/A12 (io), 59 P3_3/A11 (io), 60 P3_2/A10 (io), 61 P3_1/A9 (io), 63 P3_0/A8 (io), 65 P2_7/A7 (io), 66 P2_6/A6 (io), 67 P2_5/A5 (io), 68 P2_4/A4 (io), 69 P2_3/A3 (io), 70 P2_2/A2 (io), 71 P2_1/A1 (io), 72 P2_0/A0 (io), 73 P1_7/D15 (io), 74 P1_6/~{INT}4/D14 (io), 75 P1_5/D13/~{INT}3 (io), 76 P1_4/D12 (io), 77 P1_3/D11 (io), 78 P1_2/D10 (io), 79 P1_1/D9 (io), 80 P1_0/D8 (io), 81 P0_7/AN0_7/D7 (io), 82 P0_6/AN0_6/D6 (io), 83 P0_5/AN0_5/D5 (io), 84 P0_4/AN0_4/D4 (io), 85 P0_3/AN0_3/D3 (io), 86 P0_2/AN0_2/D2 (io), 87 P0_1/AN0_1/D1 (io), 88 P0_0/AN0_0/D0 (io), 89 P10_7/~{KI}3/AN_7 (io), 90 P10_6/~{KI}2/AN_6 (io), 91 P10_5/~{KI}1/AN_5 (io), 92 P10_4/~{KI}0/AN_4 (io), 93 P10_3/AN_3 (io), 94 P10_2/AN_2 (io), 95 P10_1/AN_1 (io), 97 P10_0/AN_0 (io), 98 VREF (in), 100 P9_7/~{ADTRG} (io)
part B pins: 14 VSS (power), 16 VCC (power), 62 VCC2 (power), 64 VSS (power), 96 AVSS (power), 99 AVCC (power)

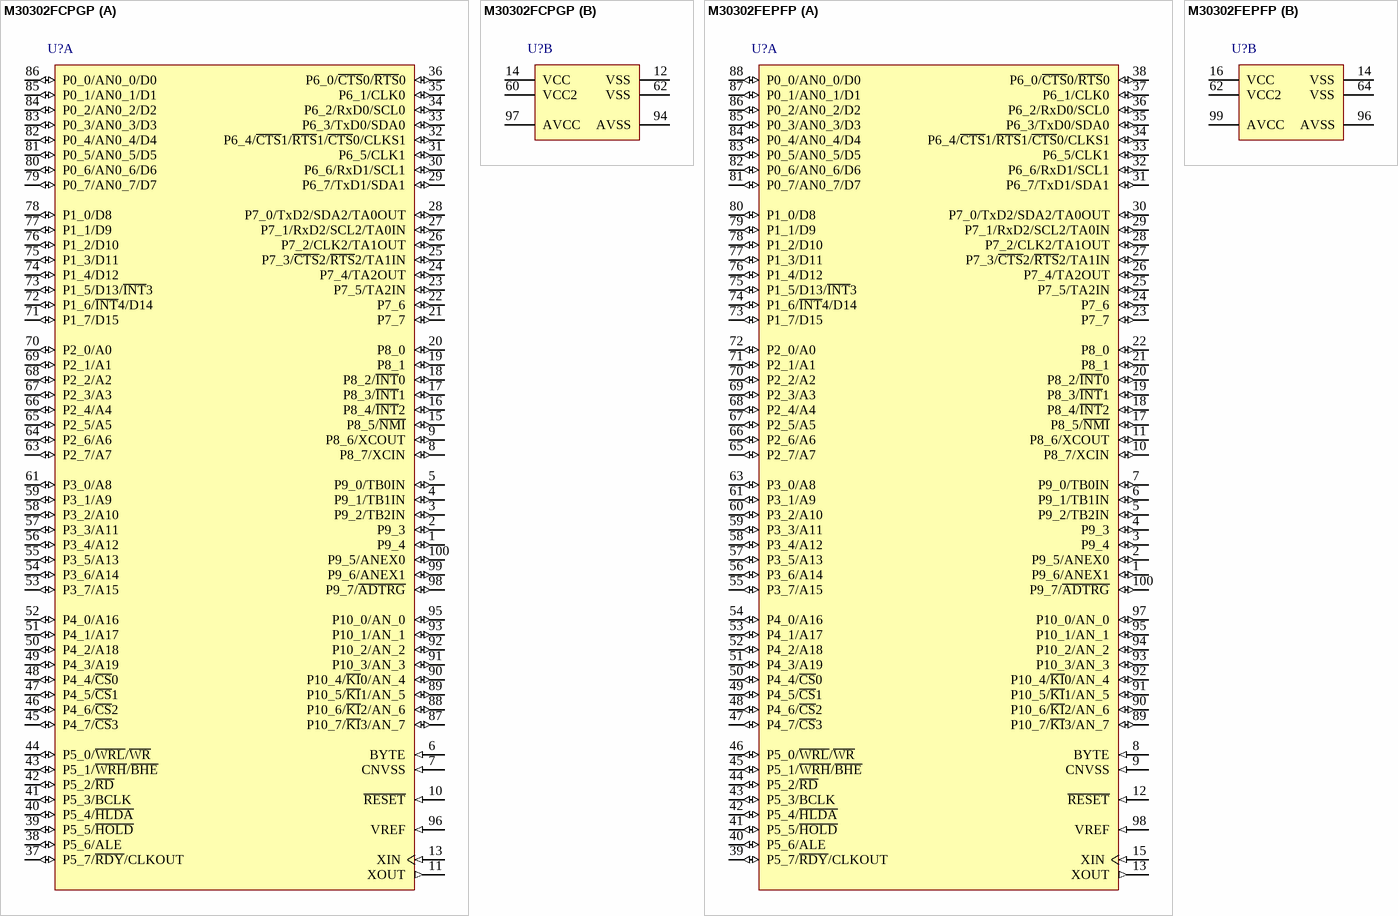
[diagram p59: symbols M30302FCPGP to M30302FEPFP]

## M30302FCPGP
designator U?
Flash Memory M16C/30 Series, 30P Group MCU, 128K + 4K ROM, 5K RAM, 100-pin LQFP; Published: 28-Aug-2009; DatasheetVersion: Rev.1.22, Mar-2007; PackageVersion: Sep-2005; PackageReference: PLQP0100KB-A; Publisher: Altium Limited; PackageDescription: 100-Pin Plastic Low Profile QFP, 14 x 14 x 1.4 mm Body, 0.5 mm Pitch; Code_JEITA: P-LQFP100-14x14-0.50; Code_IPC: SQFP50P1600X1600-100; ComponentLink1Description: Manufacturer Link; ComponentLink1URL: http://sg.renesas.com/fmwk.jsp?cnt=m16c_family_landing.jsp&fp=/products/mpumcu/m16c_family/; ComponentLink2Description: Datasheet; ComponentLink2URL: http://documentation.renesas.com/eng/products/mpumcu/rej09b0179_16c30phm.pdf; ComponentLink3Description: Packaging Specification; ComponentLink3URL: http://sg.renesas.com/media/products/common_info/package/pdf/ic/code/plqp0100kb_a.pdf
footprint PLQP0100KB-A_N (Shrink QFP, 100-Leads, Body 14x14mm, Pitch 0.5mm, IPC Medium Density)
footprint PLQP0100KB-A_L (Shrink QFP, 100-Leads, Body 14x14mm, Pitch 0.5mm, IPC High Density)
footprint PLQP0100KB-A_M (Shrink QFP, 100-Leads, Body 14x14mm, Pitch 0.5mm, IPC Low Density)
part A pins: 1 P9_4 (io), 2 P9_3 (io), 3 P9_2/TB2IN (io), 4 P9_1/TB1IN (io), 5 P9_0/TB0IN (io), 6 BYTE (in), 7 CNVSS (in), 8 P8_7/XCIN (io), 9 P8_6/XCOUT (io), 10 ~{RESET} (in), 11 XOUT (out), 13 XIN (in), 15 P8_5/~{NMI} (io), 16 P8_4/~{INT}2 (io), 17 P8_3/~{INT}1 (io), 18 P8_2/~{INT}0 (io), 19 P8_1 (io), 20 P8_0 (io), 21 P7_7 (io), 22 P7_6 (io), 23 P7_5/TA2IN (io), 24 P7_4/TA2OUT (io), 25 P7_3/~{CTS}2/~{RTS}2/TA1IN (io), 26 P7_2/CLK2/TA1OUT (io), 27 P7_1/RxD2/SCL2/TA0IN (io), 28 P7_0/TxD2/SDA2/TA0OUT (io), 29 P6_7/TxD1/SDA1 (io), 30 P6_6/RxD1/SCL1 (io), 31 P6_5/CLK1 (io), 32 P6_4/~{CTS}1/~{RTS}1/~{CTS}0/CLKS1 (io), 33 P6_3/TxD0/SDA0 (io), 34 P6_2/RxD0/SCL0 (io), 35 P6_1/CLK0 (io), 36 P6_0/~{CTS}0/~{RTS}0 (io), 37 P5_7/~{RDY}/CLKOUT (io), 38 P5_6/ALE (io), 39 P5_5/~{HOLD} (io), 40 P5_4/~{HLDA} (io), 41 P5_3/BCLK (io), 42 P5_2/~{RD} (io), 43 P5_1/~{WRH}/~{BHE} (io), 44 P5_0/~{WRL}/~{WR} (io), 45 P4_7/~{CS}3 (io), 46 P4_6/~{CS}2 (io), 47 P4_5/~{CS}1 (io), 48 P4_4/~{CS}0 (io), 49 P4_3/A19 (io), 50 P4_2/A18 (io), 51 P4_1/A17 (io), 52 P4_0/A16 (io), 53 P3_7/A15 (io), 54 P3_6/A14 (io), 55 P3_5/A13 (io), 56 P3_4/A12 (io), 57 P3_3/A11 (io), 58 P3_2/A10 (io), 59 P3_1/A9 (io), 61 P3_0/A8 (io), 63 P2_7/A7 (io), 64 P2_6/A6 (io), 65 P2_5/A5 (io), 66 P2_4/A4 (io), 67 P2_3/A3 (io), 68 P2_2/A2 (io), 69 P2_1/A1 (io), 70 P2_0/A0 (io), 71 P1_7/D15 (io), 72 P1_6/~{INT}4/D14 (io), 73 P1_5/D13/~{INT}3 (io), 74 P1_4/D12 (io), 75 P1_3/D11 (io), 76 P1_2/D10 (io), 77 P1_1/D9 (io), 78 P1_0/D8 (io), 79 P0_7/AN0_7/D7 (io), 80 P0_6/AN0_6/D6 (io), 81 P0_5/AN0_5/D5 (io), 82 P0_4/AN0_4/D4 (io), 83 P0_3/AN0_3/D3 (io), 84 P0_2/AN0_2/D2 (io), 85 P0_1/AN0_1/D1 (io), 86 P0_0/AN0_0/D0 (io), 87 P10_7/~{KI}3/AN_7 (io), 88 P10_6/~{KI}2/AN_6 (io), 89 P10_5/~{KI}1/AN_5 (io), 90 P10_4/~{KI}0/AN_4 (io), 91 P10_3/AN_3 (io), 92 P10_2/AN_2 (io), 93 P10_1/AN_1 (io), 95 P10_0/AN_0 (io), 96 VREF (in), 98 P9_7/~{ADTRG} (io), 99 P9_6/ANEX1 (io), 100 P9_5/ANEX0 (io)
part B pins: 12 VSS (power), 14 VCC (power), 60 VCC2 (power), 62 VSS (power), 94 AVSS (power), 97 AVCC (power)

## M30302FEPFP
designator U?
Flash Memory M16C/30 Series, 30P Group MCU, 192K + 4K ROM, 6K RAM, 100-pin RQFP; Published: 28-Aug-2009; DatasheetVersion: Rev.1.22, Mar-2007; PackageVersion: Sep-2005; PackageReference: PRQP0100JB-A; Publisher: Altium Limited; PackageDescription: 100-Pin Plastic Quad Flat Pack, 20 x 14 x 2.8 mm Body, 0.65 mm Pitch; Code_JEITA: P-QFP100-14x20-0.65; ComponentLink1Description: Manufacturer Link; ComponentLink1URL: http://sg.renesas.com/fmwk.jsp?cnt=m16c_family_landing.jsp&fp=/products/mpumcu/m16c_family/; ComponentLink2Description: Datasheet; ComponentLink2URL: http://documentation.renesas.com/eng/products/mpumcu/rej09b0179_16c30phm.pdf; ComponentLink3Description: Packaging Specification; ComponentLink3URL: http://sg.renesas.com/media/products/common_info/package/pdf/ic/code/prqp0100jb_a.pdf
footprint PRQP0100JB-A_N (QFP, 100-Leads, Body 20x14mm, Pitch 0.65mm, IPC Medium Density)
footprint PRQP0100JB-A_L (QFP, 100-Leads, Body 20x14mm, Pitch 0.65mm, IPC High Density)
footprint PRQP0100JB-A_M (QFP, 100-Leads, Body 20x14mm, Pitch 0.65mm, IPC Low Density)
part A pins: 1 P9_6/ANEX1 (io), 2 P9_5/ANEX0 (io), 3 P9_4 (io), 4 P9_3 (io), 5 P9_2/TB2IN (io), 6 P9_1/TB1IN (io), 7 P9_0/TB0IN (io), 8 BYTE (in), 9 CNVSS (in), 10 P8_7/XCIN (io), 11 P8_6/XCOUT (io), 12 ~{RESET} (in), 13 XOUT (out), 15 XIN (in), 17 P8_5/~{NMI} (io), 18 P8_4/~{INT}2 (io), 19 P8_3/~{INT}1 (io), 20 P8_2/~{INT}0 (io), 21 P8_1 (io), 22 P8_0 (io), 23 P7_7 (io), 24 P7_6 (io), 25 P7_5/TA2IN (io), 26 P7_4/TA2OUT (io), 27 P7_3/~{CTS}2/~{RTS}2/TA1IN (io), 28 P7_2/CLK2/TA1OUT (io), 29 P7_1/RxD2/SCL2/TA0IN (io), 30 P7_0/TxD2/SDA2/TA0OUT (io), 31 P6_7/TxD1/SDA1 (io), 32 P6_6/RxD1/SCL1 (io), 33 P6_5/CLK1 (io), 34 P6_4/~{CTS}1/~{RTS}1/~{CTS}0/CLKS1 (io), 35 P6_3/TxD0/SDA0 (io), 36 P6_2/RxD0/SCL0 (io), 37 P6_1/CLK0 (io), 38 P6_0/~{CTS}0/~{RTS}0 (io), 39 P5_7/~{RDY}/CLKOUT (io), 40 P5_6/ALE (io), 41 P5_5/~{HOLD} (io), 42 P5_4/~{HLDA} (io), 43 P5_3/BCLK (io), 44 P5_2/~{RD} (io), 45 P5_1/~{WRH}/~{BHE} (io), 46 P5_0/~{WRL}/~{WR} (io), 47 P4_7/~{CS}3 (io), 48 P4_6/~{CS}2 (io), 49 P4_5/~{CS}1 (io), 50 P4_4/~{CS}0 (io), 51 P4_3/A19 (io), 52 P4_2/A18 (io), 53 P4_1/A17 (io), 54 P4_0/A16 (io), 55 P3_7/A15 (io), 56 P3_6/A14 (io), 57 P3_5/A13 (io), 58 P3_4/A12 (io), 59 P3_3/A11 (io), 60 P3_2/A10 (io), 61 P3_1/A9 (io), 63 P3_0/A8 (io), 65 P2_7/A7 (io), 66 P2_6/A6 (io), 67 P2_5/A5 (io), 68 P2_4/A4 (io), 69 P2_3/A3 (io), 70 P2_2/A2 (io), 71 P2_1/A1 (io), 72 P2_0/A0 (io), 73 P1_7/D15 (io), 74 P1_6/~{INT}4/D14 (io), 75 P1_5/D13/~{INT}3 (io), 76 P1_4/D12 (io), 77 P1_3/D11 (io), 78 P1_2/D10 (io), 79 P1_1/D9 (io), 80 P1_0/D8 (io), 81 P0_7/AN0_7/D7 (io), 82 P0_6/AN0_6/D6 (io), 83 P0_5/AN0_5/D5 (io), 84 P0_4/AN0_4/D4 (io), 85 P0_3/AN0_3/D3 (io), 86 P0_2/AN0_2/D2 (io), 87 P0_1/AN0_1/D1 (io), 88 P0_0/AN0_0/D0 (io), 89 P10_7/~{KI}3/AN_7 (io), 90 P10_6/~{KI}2/AN_6 (io), 91 P10_5/~{KI}1/AN_5 (io), 92 P10_4/~{KI}0/AN_4 (io), 93 P10_3/AN_3 (io), 94 P10_2/AN_2 (io), 95 P10_1/AN_1 (io), 97 P10_0/AN_0 (io), 98 VREF (in), 100 P9_7/~{ADTRG} (io)
part B pins: 14 VSS (power), 16 VCC (power), 62 VCC2 (power), 64 VSS (power), 96 AVSS (power), 99 AVCC (power)

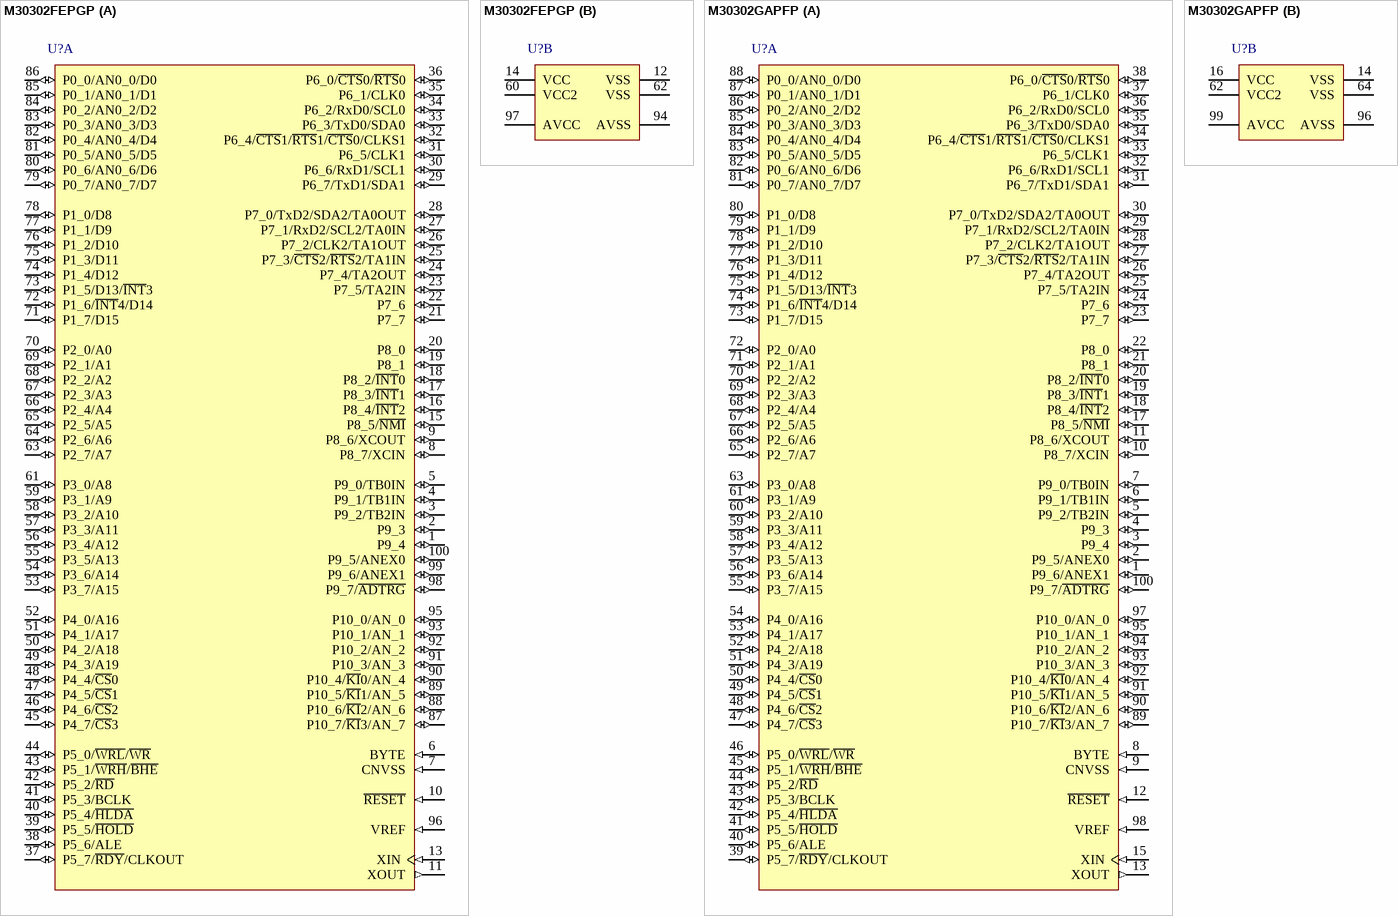
[diagram p60: symbols M30302FEPGP to M30302GAPFP]

## M30302FEPGP
designator U?
Flash Memory M16C/30 Series, 30P Group MCU, 192K + 4K ROM, 6K RAM, 100-pin LQFP; Published: 28-Aug-2009; DatasheetVersion: Rev.1.22, Mar-2007; PackageVersion: Sep-2005; PackageReference: PLQP0100KB-A; Publisher: Altium Limited; PackageDescription: 100-Pin Plastic Low Profile QFP, 14 x 14 x 1.4 mm Body, 0.5 mm Pitch; Code_JEITA: P-LQFP100-14x14-0.50; Code_IPC: SQFP50P1600X1600-100; ComponentLink1Description: Manufacturer Link; ComponentLink1URL: http://sg.renesas.com/fmwk.jsp?cnt=m16c_family_landing.jsp&fp=/products/mpumcu/m16c_family/; ComponentLink2Description: Datasheet; ComponentLink2URL: http://documentation.renesas.com/eng/products/mpumcu/rej09b0179_16c30phm.pdf; ComponentLink3Description: Packaging Specification; ComponentLink3URL: http://sg.renesas.com/media/products/common_info/package/pdf/ic/code/plqp0100kb_a.pdf
footprint PLQP0100KB-A_N (Shrink QFP, 100-Leads, Body 14x14mm, Pitch 0.5mm, IPC Medium Density)
footprint PLQP0100KB-A_L (Shrink QFP, 100-Leads, Body 14x14mm, Pitch 0.5mm, IPC High Density)
footprint PLQP0100KB-A_M (Shrink QFP, 100-Leads, Body 14x14mm, Pitch 0.5mm, IPC Low Density)
part A pins: 1 P9_4 (io), 2 P9_3 (io), 3 P9_2/TB2IN (io), 4 P9_1/TB1IN (io), 5 P9_0/TB0IN (io), 6 BYTE (in), 7 CNVSS (in), 8 P8_7/XCIN (io), 9 P8_6/XCOUT (io), 10 ~{RESET} (in), 11 XOUT (out), 13 XIN (in), 15 P8_5/~{NMI} (io), 16 P8_4/~{INT}2 (io), 17 P8_3/~{INT}1 (io), 18 P8_2/~{INT}0 (io), 19 P8_1 (io), 20 P8_0 (io), 21 P7_7 (io), 22 P7_6 (io), 23 P7_5/TA2IN (io), 24 P7_4/TA2OUT (io), 25 P7_3/~{CTS}2/~{RTS}2/TA1IN (io), 26 P7_2/CLK2/TA1OUT (io), 27 P7_1/RxD2/SCL2/TA0IN (io), 28 P7_0/TxD2/SDA2/TA0OUT (io), 29 P6_7/TxD1/SDA1 (io), 30 P6_6/RxD1/SCL1 (io), 31 P6_5/CLK1 (io), 32 P6_4/~{CTS}1/~{RTS}1/~{CTS}0/CLKS1 (io), 33 P6_3/TxD0/SDA0 (io), 34 P6_2/RxD0/SCL0 (io), 35 P6_1/CLK0 (io), 36 P6_0/~{CTS}0/~{RTS}0 (io), 37 P5_7/~{RDY}/CLKOUT (io), 38 P5_6/ALE (io), 39 P5_5/~{HOLD} (io), 40 P5_4/~{HLDA} (io), 41 P5_3/BCLK (io), 42 P5_2/~{RD} (io), 43 P5_1/~{WRH}/~{BHE} (io), 44 P5_0/~{WRL}/~{WR} (io), 45 P4_7/~{CS}3 (io), 46 P4_6/~{CS}2 (io), 47 P4_5/~{CS}1 (io), 48 P4_4/~{CS}0 (io), 49 P4_3/A19 (io), 50 P4_2/A18 (io), 51 P4_1/A17 (io), 52 P4_0/A16 (io), 53 P3_7/A15 (io), 54 P3_6/A14 (io), 55 P3_5/A13 (io), 56 P3_4/A12 (io), 57 P3_3/A11 (io), 58 P3_2/A10 (io), 59 P3_1/A9 (io), 61 P3_0/A8 (io), 63 P2_7/A7 (io), 64 P2_6/A6 (io), 65 P2_5/A5 (io), 66 P2_4/A4 (io), 67 P2_3/A3 (io), 68 P2_2/A2 (io), 69 P2_1/A1 (io), 70 P2_0/A0 (io), 71 P1_7/D15 (io), 72 P1_6/~{INT}4/D14 (io), 73 P1_5/D13/~{INT}3 (io), 74 P1_4/D12 (io), 75 P1_3/D11 (io), 76 P1_2/D10 (io), 77 P1_1/D9 (io), 78 P1_0/D8 (io), 79 P0_7/AN0_7/D7 (io), 80 P0_6/AN0_6/D6 (io), 81 P0_5/AN0_5/D5 (io), 82 P0_4/AN0_4/D4 (io), 83 P0_3/AN0_3/D3 (io), 84 P0_2/AN0_2/D2 (io), 85 P0_1/AN0_1/D1 (io), 86 P0_0/AN0_0/D0 (io), 87 P10_7/~{KI}3/AN_7 (io), 88 P10_6/~{KI}2/AN_6 (io), 89 P10_5/~{KI}1/AN_5 (io), 90 P10_4/~{KI}0/AN_4 (io), 91 P10_3/AN_3 (io), 92 P10_2/AN_2 (io), 93 P10_1/AN_1 (io), 95 P10_0/AN_0 (io), 96 VREF (in), 98 P9_7/~{ADTRG} (io), 99 P9_6/ANEX1 (io), 100 P9_5/ANEX0 (io)
part B pins: 12 VSS (power), 14 VCC (power), 60 VCC2 (power), 62 VSS (power), 94 AVSS (power), 97 AVCC (power)

## M30302GAPFP
designator U?
OTP Flash Memory M16C/30 Series, 30P Group MCU, 96K ROM, 5K RAM, 100-pin RQFP; Published: 28-Aug-2009; DatasheetVersion: Rev.1.22, Mar-2007; PackageVersion: Sep-2005; PackageReference: PRQP0100JB-A; Publisher: Altium Limited; PackageDescription: 100-Pin Plastic Quad Flat Pack, 20 x 14 x 2.8 mm Body, 0.65 mm Pitch; Code_JEITA: P-QFP100-14x20-0.65; ComponentLink1Description: Manufacturer Link; ComponentLink1URL: http://sg.renesas.com/fmwk.jsp?cnt=m16c_family_landing.jsp&fp=/products/mpumcu/m16c_family/; ComponentLink2Description: Datasheet; ComponentLink2URL: http://documentation.renesas.com/eng/products/mpumcu/rej09b0179_16c30phm.pdf; ComponentLink3Description: Packaging Specification; ComponentLink3URL: http://sg.renesas.com/media/products/common_info/package/pdf/ic/code/prqp0100jb_a.pdf
footprint PRQP0100JB-A_N (QFP, 100-Leads, Body 20x14mm, Pitch 0.65mm, IPC Medium Density)
footprint PRQP0100JB-A_L (QFP, 100-Leads, Body 20x14mm, Pitch 0.65mm, IPC High Density)
footprint PRQP0100JB-A_M (QFP, 100-Leads, Body 20x14mm, Pitch 0.65mm, IPC Low Density)
part A pins: 1 P9_6/ANEX1 (io), 2 P9_5/ANEX0 (io), 3 P9_4 (io), 4 P9_3 (io), 5 P9_2/TB2IN (io), 6 P9_1/TB1IN (io), 7 P9_0/TB0IN (io), 8 BYTE (in), 9 CNVSS (in), 10 P8_7/XCIN (io), 11 P8_6/XCOUT (io), 12 ~{RESET} (in), 13 XOUT (out), 15 XIN (in), 17 P8_5/~{NMI} (io), 18 P8_4/~{INT}2 (io), 19 P8_3/~{INT}1 (io), 20 P8_2/~{INT}0 (io), 21 P8_1 (io), 22 P8_0 (io), 23 P7_7 (io), 24 P7_6 (io), 25 P7_5/TA2IN (io), 26 P7_4/TA2OUT (io), 27 P7_3/~{CTS}2/~{RTS}2/TA1IN (io), 28 P7_2/CLK2/TA1OUT (io), 29 P7_1/RxD2/SCL2/TA0IN (io), 30 P7_0/TxD2/SDA2/TA0OUT (io), 31 P6_7/TxD1/SDA1 (io), 32 P6_6/RxD1/SCL1 (io), 33 P6_5/CLK1 (io), 34 P6_4/~{CTS}1/~{RTS}1/~{CTS}0/CLKS1 (io), 35 P6_3/TxD0/SDA0 (io), 36 P6_2/RxD0/SCL0 (io), 37 P6_1/CLK0 (io), 38 P6_0/~{CTS}0/~{RTS}0 (io), 39 P5_7/~{RDY}/CLKOUT (io), 40 P5_6/ALE (io), 41 P5_5/~{HOLD} (io), 42 P5_4/~{HLDA} (io), 43 P5_3/BCLK (io), 44 P5_2/~{RD} (io), 45 P5_1/~{WRH}/~{BHE} (io), 46 P5_0/~{WRL}/~{WR} (io), 47 P4_7/~{CS}3 (io), 48 P4_6/~{CS}2 (io), 49 P4_5/~{CS}1 (io), 50 P4_4/~{CS}0 (io), 51 P4_3/A19 (io), 52 P4_2/A18 (io), 53 P4_1/A17 (io), 54 P4_0/A16 (io), 55 P3_7/A15 (io), 56 P3_6/A14 (io), 57 P3_5/A13 (io), 58 P3_4/A12 (io), 59 P3_3/A11 (io), 60 P3_2/A10 (io), 61 P3_1/A9 (io), 63 P3_0/A8 (io), 65 P2_7/A7 (io), 66 P2_6/A6 (io), 67 P2_5/A5 (io), 68 P2_4/A4 (io), 69 P2_3/A3 (io), 70 P2_2/A2 (io), 71 P2_1/A1 (io), 72 P2_0/A0 (io), 73 P1_7/D15 (io), 74 P1_6/~{INT}4/D14 (io), 75 P1_5/D13/~{INT}3 (io), 76 P1_4/D12 (io), 77 P1_3/D11 (io), 78 P1_2/D10 (io), 79 P1_1/D9 (io), 80 P1_0/D8 (io), 81 P0_7/AN0_7/D7 (io), 82 P0_6/AN0_6/D6 (io), 83 P0_5/AN0_5/D5 (io), 84 P0_4/AN0_4/D4 (io), 85 P0_3/AN0_3/D3 (io), 86 P0_2/AN0_2/D2 (io), 87 P0_1/AN0_1/D1 (io), 88 P0_0/AN0_0/D0 (io), 89 P10_7/~{KI}3/AN_7 (io), 90 P10_6/~{KI}2/AN_6 (io), 91 P10_5/~{KI}1/AN_5 (io), 92 P10_4/~{KI}0/AN_4 (io), 93 P10_3/AN_3 (io), 94 P10_2/AN_2 (io), 95 P10_1/AN_1 (io), 97 P10_0/AN_0 (io), 98 VREF (in), 100 P9_7/~{ADTRG} (io)
part B pins: 14 VSS (power), 16 VCC (power), 62 VCC2 (power), 64 VSS (power), 96 AVSS (power), 99 AVCC (power)

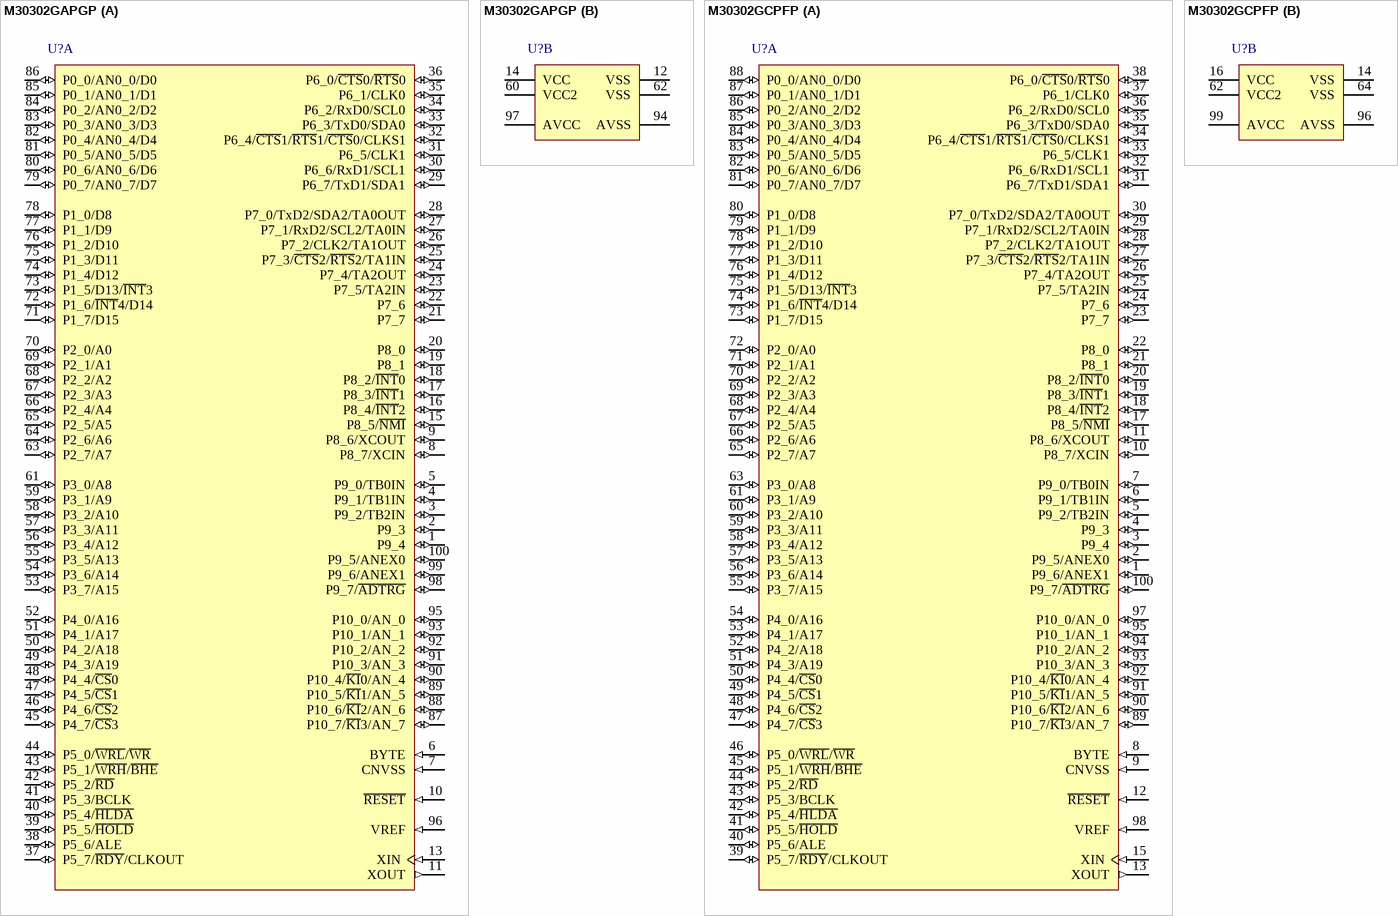
[diagram p61: symbols M30302GAPGP to M30302GCPFP]

## M30302GAPGP
designator U?
OTP Flash Memory M16C/30 Series, 30P Group MCU, 96K ROM, 5K RAM, 100-pin LQFP; Published: 28-Aug-2009; DatasheetVersion: Rev.1.22, Mar-2007; PackageVersion: Sep-2005; PackageReference: PLQP0100KB-A; Publisher: Altium Limited; PackageDescription: 100-Pin Plastic Low Profile QFP, 14 x 14 x 1.4 mm Body, 0.5 mm Pitch; Code_JEITA: P-LQFP100-14x14-0.50; Code_IPC: SQFP50P1600X1600-100; ComponentLink1Description: Manufacturer Link; ComponentLink1URL: http://sg.renesas.com/fmwk.jsp?cnt=m16c_family_landing.jsp&fp=/products/mpumcu/m16c_family/; ComponentLink2Description: Datasheet; ComponentLink2URL: http://documentation.renesas.com/eng/products/mpumcu/rej09b0179_16c30phm.pdf; ComponentLink3Description: Packaging Specification; ComponentLink3URL: http://sg.renesas.com/media/products/common_info/package/pdf/ic/code/plqp0100kb_a.pdf
footprint PLQP0100KB-A_N (Shrink QFP, 100-Leads, Body 14x14mm, Pitch 0.5mm, IPC Medium Density)
footprint PLQP0100KB-A_L (Shrink QFP, 100-Leads, Body 14x14mm, Pitch 0.5mm, IPC High Density)
footprint PLQP0100KB-A_M (Shrink QFP, 100-Leads, Body 14x14mm, Pitch 0.5mm, IPC Low Density)
part A pins: 1 P9_4 (io), 2 P9_3 (io), 3 P9_2/TB2IN (io), 4 P9_1/TB1IN (io), 5 P9_0/TB0IN (io), 6 BYTE (in), 7 CNVSS (in), 8 P8_7/XCIN (io), 9 P8_6/XCOUT (io), 10 ~{RESET} (in), 11 XOUT (out), 13 XIN (in), 15 P8_5/~{NMI} (io), 16 P8_4/~{INT}2 (io), 17 P8_3/~{INT}1 (io), 18 P8_2/~{INT}0 (io), 19 P8_1 (io), 20 P8_0 (io), 21 P7_7 (io), 22 P7_6 (io), 23 P7_5/TA2IN (io), 24 P7_4/TA2OUT (io), 25 P7_3/~{CTS}2/~{RTS}2/TA1IN (io), 26 P7_2/CLK2/TA1OUT (io), 27 P7_1/RxD2/SCL2/TA0IN (io), 28 P7_0/TxD2/SDA2/TA0OUT (io), 29 P6_7/TxD1/SDA1 (io), 30 P6_6/RxD1/SCL1 (io), 31 P6_5/CLK1 (io), 32 P6_4/~{CTS}1/~{RTS}1/~{CTS}0/CLKS1 (io), 33 P6_3/TxD0/SDA0 (io), 34 P6_2/RxD0/SCL0 (io), 35 P6_1/CLK0 (io), 36 P6_0/~{CTS}0/~{RTS}0 (io), 37 P5_7/~{RDY}/CLKOUT (io), 38 P5_6/ALE (io), 39 P5_5/~{HOLD} (io), 40 P5_4/~{HLDA} (io), 41 P5_3/BCLK (io), 42 P5_2/~{RD} (io), 43 P5_1/~{WRH}/~{BHE} (io), 44 P5_0/~{WRL}/~{WR} (io), 45 P4_7/~{CS}3 (io), 46 P4_6/~{CS}2 (io), 47 P4_5/~{CS}1 (io), 48 P4_4/~{CS}0 (io), 49 P4_3/A19 (io), 50 P4_2/A18 (io), 51 P4_1/A17 (io), 52 P4_0/A16 (io), 53 P3_7/A15 (io), 54 P3_6/A14 (io), 55 P3_5/A13 (io), 56 P3_4/A12 (io), 57 P3_3/A11 (io), 58 P3_2/A10 (io), 59 P3_1/A9 (io), 61 P3_0/A8 (io), 63 P2_7/A7 (io), 64 P2_6/A6 (io), 65 P2_5/A5 (io), 66 P2_4/A4 (io), 67 P2_3/A3 (io), 68 P2_2/A2 (io), 69 P2_1/A1 (io), 70 P2_0/A0 (io), 71 P1_7/D15 (io), 72 P1_6/~{INT}4/D14 (io), 73 P1_5/D13/~{INT}3 (io), 74 P1_4/D12 (io), 75 P1_3/D11 (io), 76 P1_2/D10 (io), 77 P1_1/D9 (io), 78 P1_0/D8 (io), 79 P0_7/AN0_7/D7 (io), 80 P0_6/AN0_6/D6 (io), 81 P0_5/AN0_5/D5 (io), 82 P0_4/AN0_4/D4 (io), 83 P0_3/AN0_3/D3 (io), 84 P0_2/AN0_2/D2 (io), 85 P0_1/AN0_1/D1 (io), 86 P0_0/AN0_0/D0 (io), 87 P10_7/~{KI}3/AN_7 (io), 88 P10_6/~{KI}2/AN_6 (io), 89 P10_5/~{KI}1/AN_5 (io), 90 P10_4/~{KI}0/AN_4 (io), 91 P10_3/AN_3 (io), 92 P10_2/AN_2 (io), 93 P10_1/AN_1 (io), 95 P10_0/AN_0 (io), 96 VREF (in), 98 P9_7/~{ADTRG} (io), 99 P9_6/ANEX1 (io), 100 P9_5/ANEX0 (io)
part B pins: 12 VSS (power), 14 VCC (power), 60 VCC2 (power), 62 VSS (power), 94 AVSS (power), 97 AVCC (power)

## M30302GCPFP
designator U?
OTP Flash Memory M16C/30 Series, 30P Group MCU, 128K ROM, 5K RAM, 100-pin RQFP; Published: 28-Aug-2009; DatasheetVersion: Rev.1.22, Mar-2007; PackageVersion: Sep-2005; PackageReference: PRQP0100JB-A; Publisher: Altium Limited; PackageDescription: 100-Pin Plastic Quad Flat Pack, 20 x 14 x 2.8 mm Body, 0.65 mm Pitch; Code_JEITA: P-QFP100-14x20-0.65; ComponentLink1Description: Manufacturer Link; ComponentLink1URL: http://sg.renesas.com/fmwk.jsp?cnt=m16c_family_landing.jsp&fp=/products/mpumcu/m16c_family/; ComponentLink2Description: Datasheet; ComponentLink2URL: http://documentation.renesas.com/eng/products/mpumcu/rej09b0179_16c30phm.pdf; ComponentLink3Description: Packaging Specification; ComponentLink3URL: http://sg.renesas.com/media/products/common_info/package/pdf/ic/code/prqp0100jb_a.pdf
footprint PRQP0100JB-A_N (QFP, 100-Leads, Body 20x14mm, Pitch 0.65mm, IPC Medium Density)
footprint PRQP0100JB-A_L (QFP, 100-Leads, Body 20x14mm, Pitch 0.65mm, IPC High Density)
footprint PRQP0100JB-A_M (QFP, 100-Leads, Body 20x14mm, Pitch 0.65mm, IPC Low Density)
part A pins: 1 P9_6/ANEX1 (io), 2 P9_5/ANEX0 (io), 3 P9_4 (io), 4 P9_3 (io), 5 P9_2/TB2IN (io), 6 P9_1/TB1IN (io), 7 P9_0/TB0IN (io), 8 BYTE (in), 9 CNVSS (in), 10 P8_7/XCIN (io), 11 P8_6/XCOUT (io), 12 ~{RESET} (in), 13 XOUT (out), 15 XIN (in), 17 P8_5/~{NMI} (io), 18 P8_4/~{INT}2 (io), 19 P8_3/~{INT}1 (io), 20 P8_2/~{INT}0 (io), 21 P8_1 (io), 22 P8_0 (io), 23 P7_7 (io), 24 P7_6 (io), 25 P7_5/TA2IN (io), 26 P7_4/TA2OUT (io), 27 P7_3/~{CTS}2/~{RTS}2/TA1IN (io), 28 P7_2/CLK2/TA1OUT (io), 29 P7_1/RxD2/SCL2/TA0IN (io), 30 P7_0/TxD2/SDA2/TA0OUT (io), 31 P6_7/TxD1/SDA1 (io), 32 P6_6/RxD1/SCL1 (io), 33 P6_5/CLK1 (io), 34 P6_4/~{CTS}1/~{RTS}1/~{CTS}0/CLKS1 (io), 35 P6_3/TxD0/SDA0 (io), 36 P6_2/RxD0/SCL0 (io), 37 P6_1/CLK0 (io), 38 P6_0/~{CTS}0/~{RTS}0 (io), 39 P5_7/~{RDY}/CLKOUT (io), 40 P5_6/ALE (io), 41 P5_5/~{HOLD} (io), 42 P5_4/~{HLDA} (io), 43 P5_3/BCLK (io), 44 P5_2/~{RD} (io), 45 P5_1/~{WRH}/~{BHE} (io), 46 P5_0/~{WRL}/~{WR} (io), 47 P4_7/~{CS}3 (io), 48 P4_6/~{CS}2 (io), 49 P4_5/~{CS}1 (io), 50 P4_4/~{CS}0 (io), 51 P4_3/A19 (io), 52 P4_2/A18 (io), 53 P4_1/A17 (io), 54 P4_0/A16 (io), 55 P3_7/A15 (io), 56 P3_6/A14 (io), 57 P3_5/A13 (io), 58 P3_4/A12 (io), 59 P3_3/A11 (io), 60 P3_2/A10 (io), 61 P3_1/A9 (io), 63 P3_0/A8 (io), 65 P2_7/A7 (io), 66 P2_6/A6 (io), 67 P2_5/A5 (io), 68 P2_4/A4 (io), 69 P2_3/A3 (io), 70 P2_2/A2 (io), 71 P2_1/A1 (io), 72 P2_0/A0 (io), 73 P1_7/D15 (io), 74 P1_6/~{INT}4/D14 (io), 75 P1_5/D13/~{INT}3 (io), 76 P1_4/D12 (io), 77 P1_3/D11 (io), 78 P1_2/D10 (io), 79 P1_1/D9 (io), 80 P1_0/D8 (io), 81 P0_7/AN0_7/D7 (io), 82 P0_6/AN0_6/D6 (io), 83 P0_5/AN0_5/D5 (io), 84 P0_4/AN0_4/D4 (io), 85 P0_3/AN0_3/D3 (io), 86 P0_2/AN0_2/D2 (io), 87 P0_1/AN0_1/D1 (io), 88 P0_0/AN0_0/D0 (io), 89 P10_7/~{KI}3/AN_7 (io), 90 P10_6/~{KI}2/AN_6 (io), 91 P10_5/~{KI}1/AN_5 (io), 92 P10_4/~{KI}0/AN_4 (io), 93 P10_3/AN_3 (io), 94 P10_2/AN_2 (io), 95 P10_1/AN_1 (io), 97 P10_0/AN_0 (io), 98 VREF (in), 100 P9_7/~{ADTRG} (io)
part B pins: 14 VSS (power), 16 VCC (power), 62 VCC2 (power), 64 VSS (power), 96 AVSS (power), 99 AVCC (power)

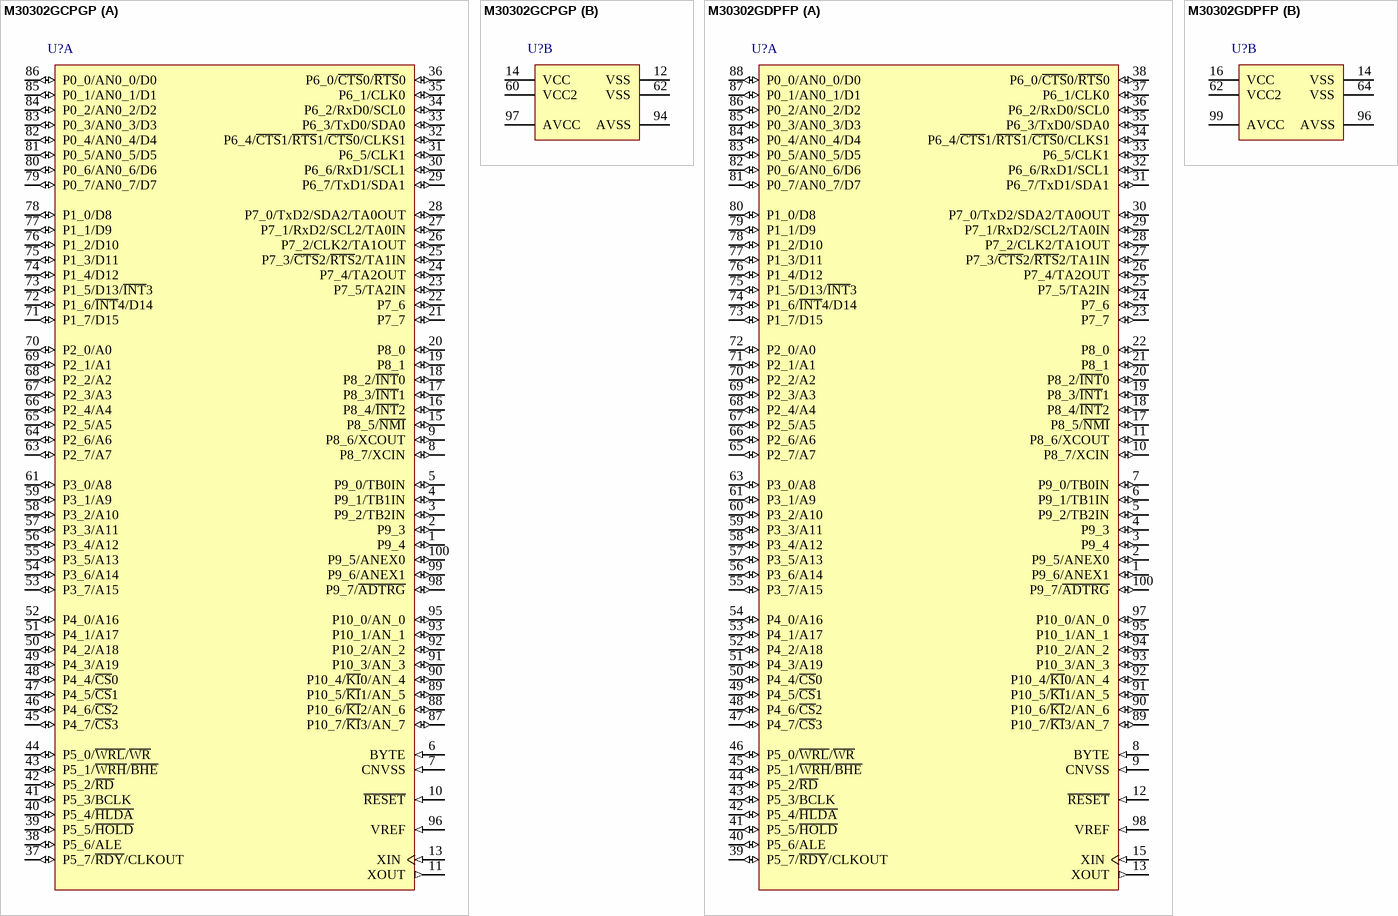
[diagram p62: symbols M30302GCPGP to M30302GDPFP]

## M30302GCPGP
designator U?
OTP Flash Memory M16C/30 Series, 30P Group MCU, 128K ROM, 5K RAM, 100-pin LQFP; Published: 28-Aug-2009; DatasheetVersion: Rev.1.22, Mar-2007; PackageVersion: Sep-2005; PackageReference: PLQP0100KB-A; Publisher: Altium Limited; PackageDescription: 100-Pin Plastic Low Profile QFP, 14 x 14 x 1.4 mm Body, 0.5 mm Pitch; Code_JEITA: P-LQFP100-14x14-0.50; Code_IPC: SQFP50P1600X1600-100; ComponentLink1Description: Manufacturer Link; ComponentLink1URL: http://sg.renesas.com/fmwk.jsp?cnt=m16c_family_landing.jsp&fp=/products/mpumcu/m16c_family/; ComponentLink2Description: Datasheet; ComponentLink2URL: http://documentation.renesas.com/eng/products/mpumcu/rej09b0179_16c30phm.pdf; ComponentLink3Description: Packaging Specification; ComponentLink3URL: http://sg.renesas.com/media/products/common_info/package/pdf/ic/code/plqp0100kb_a.pdf
footprint PLQP0100KB-A_N (Shrink QFP, 100-Leads, Body 14x14mm, Pitch 0.5mm, IPC Medium Density)
footprint PLQP0100KB-A_L (Shrink QFP, 100-Leads, Body 14x14mm, Pitch 0.5mm, IPC High Density)
footprint PLQP0100KB-A_M (Shrink QFP, 100-Leads, Body 14x14mm, Pitch 0.5mm, IPC Low Density)
part A pins: 1 P9_4 (io), 2 P9_3 (io), 3 P9_2/TB2IN (io), 4 P9_1/TB1IN (io), 5 P9_0/TB0IN (io), 6 BYTE (in), 7 CNVSS (in), 8 P8_7/XCIN (io), 9 P8_6/XCOUT (io), 10 ~{RESET} (in), 11 XOUT (out), 13 XIN (in), 15 P8_5/~{NMI} (io), 16 P8_4/~{INT}2 (io), 17 P8_3/~{INT}1 (io), 18 P8_2/~{INT}0 (io), 19 P8_1 (io), 20 P8_0 (io), 21 P7_7 (io), 22 P7_6 (io), 23 P7_5/TA2IN (io), 24 P7_4/TA2OUT (io), 25 P7_3/~{CTS}2/~{RTS}2/TA1IN (io), 26 P7_2/CLK2/TA1OUT (io), 27 P7_1/RxD2/SCL2/TA0IN (io), 28 P7_0/TxD2/SDA2/TA0OUT (io), 29 P6_7/TxD1/SDA1 (io), 30 P6_6/RxD1/SCL1 (io), 31 P6_5/CLK1 (io), 32 P6_4/~{CTS}1/~{RTS}1/~{CTS}0/CLKS1 (io), 33 P6_3/TxD0/SDA0 (io), 34 P6_2/RxD0/SCL0 (io), 35 P6_1/CLK0 (io), 36 P6_0/~{CTS}0/~{RTS}0 (io), 37 P5_7/~{RDY}/CLKOUT (io), 38 P5_6/ALE (io), 39 P5_5/~{HOLD} (io), 40 P5_4/~{HLDA} (io), 41 P5_3/BCLK (io), 42 P5_2/~{RD} (io), 43 P5_1/~{WRH}/~{BHE} (io), 44 P5_0/~{WRL}/~{WR} (io), 45 P4_7/~{CS}3 (io), 46 P4_6/~{CS}2 (io), 47 P4_5/~{CS}1 (io), 48 P4_4/~{CS}0 (io), 49 P4_3/A19 (io), 50 P4_2/A18 (io), 51 P4_1/A17 (io), 52 P4_0/A16 (io), 53 P3_7/A15 (io), 54 P3_6/A14 (io), 55 P3_5/A13 (io), 56 P3_4/A12 (io), 57 P3_3/A11 (io), 58 P3_2/A10 (io), 59 P3_1/A9 (io), 61 P3_0/A8 (io), 63 P2_7/A7 (io), 64 P2_6/A6 (io), 65 P2_5/A5 (io), 66 P2_4/A4 (io), 67 P2_3/A3 (io), 68 P2_2/A2 (io), 69 P2_1/A1 (io), 70 P2_0/A0 (io), 71 P1_7/D15 (io), 72 P1_6/~{INT}4/D14 (io), 73 P1_5/D13/~{INT}3 (io), 74 P1_4/D12 (io), 75 P1_3/D11 (io), 76 P1_2/D10 (io), 77 P1_1/D9 (io), 78 P1_0/D8 (io), 79 P0_7/AN0_7/D7 (io), 80 P0_6/AN0_6/D6 (io), 81 P0_5/AN0_5/D5 (io), 82 P0_4/AN0_4/D4 (io), 83 P0_3/AN0_3/D3 (io), 84 P0_2/AN0_2/D2 (io), 85 P0_1/AN0_1/D1 (io), 86 P0_0/AN0_0/D0 (io), 87 P10_7/~{KI}3/AN_7 (io), 88 P10_6/~{KI}2/AN_6 (io), 89 P10_5/~{KI}1/AN_5 (io), 90 P10_4/~{KI}0/AN_4 (io), 91 P10_3/AN_3 (io), 92 P10_2/AN_2 (io), 93 P10_1/AN_1 (io), 95 P10_0/AN_0 (io), 96 VREF (in), 98 P9_7/~{ADTRG} (io), 99 P9_6/ANEX1 (io), 100 P9_5/ANEX0 (io)
part B pins: 12 VSS (power), 14 VCC (power), 60 VCC2 (power), 62 VSS (power), 94 AVSS (power), 97 AVCC (power)

## M30302GDPFP
designator U?
OTP Flash Memory M16C/30 Series, 30P Group MCU, 160K ROM, 6K RAM, 100-pin RQFP; Published: 28-Aug-2009; DatasheetVersion: Rev.1.22, Mar-2007; PackageVersion: Sep-2005; PackageReference: PRQP0100JB-A; Publisher: Altium Limited; PackageDescription: 100-Pin Plastic Quad Flat Pack, 20 x 14 x 2.8 mm Body, 0.65 mm Pitch; Code_JEITA: P-QFP100-14x20-0.65; ComponentLink1Description: Manufacturer Link; ComponentLink1URL: http://sg.renesas.com/fmwk.jsp?cnt=m16c_family_landing.jsp&fp=/products/mpumcu/m16c_family/; ComponentLink2Description: Datasheet; ComponentLink2URL: http://documentation.renesas.com/eng/products/mpumcu/rej09b0179_16c30phm.pdf; ComponentLink3Description: Packaging Specification; ComponentLink3URL: http://sg.renesas.com/media/products/common_info/package/pdf/ic/code/prqp0100jb_a.pdf
footprint PRQP0100JB-A_N (QFP, 100-Leads, Body 20x14mm, Pitch 0.65mm, IPC Medium Density)
footprint PRQP0100JB-A_L (QFP, 100-Leads, Body 20x14mm, Pitch 0.65mm, IPC High Density)
footprint PRQP0100JB-A_M (QFP, 100-Leads, Body 20x14mm, Pitch 0.65mm, IPC Low Density)
part A pins: 1 P9_6/ANEX1 (io), 2 P9_5/ANEX0 (io), 3 P9_4 (io), 4 P9_3 (io), 5 P9_2/TB2IN (io), 6 P9_1/TB1IN (io), 7 P9_0/TB0IN (io), 8 BYTE (in), 9 CNVSS (in), 10 P8_7/XCIN (io), 11 P8_6/XCOUT (io), 12 ~{RESET} (in), 13 XOUT (out), 15 XIN (in), 17 P8_5/~{NMI} (io), 18 P8_4/~{INT}2 (io), 19 P8_3/~{INT}1 (io), 20 P8_2/~{INT}0 (io), 21 P8_1 (io), 22 P8_0 (io), 23 P7_7 (io), 24 P7_6 (io), 25 P7_5/TA2IN (io), 26 P7_4/TA2OUT (io), 27 P7_3/~{CTS}2/~{RTS}2/TA1IN (io), 28 P7_2/CLK2/TA1OUT (io), 29 P7_1/RxD2/SCL2/TA0IN (io), 30 P7_0/TxD2/SDA2/TA0OUT (io), 31 P6_7/TxD1/SDA1 (io), 32 P6_6/RxD1/SCL1 (io), 33 P6_5/CLK1 (io), 34 P6_4/~{CTS}1/~{RTS}1/~{CTS}0/CLKS1 (io), 35 P6_3/TxD0/SDA0 (io), 36 P6_2/RxD0/SCL0 (io), 37 P6_1/CLK0 (io), 38 P6_0/~{CTS}0/~{RTS}0 (io), 39 P5_7/~{RDY}/CLKOUT (io), 40 P5_6/ALE (io), 41 P5_5/~{HOLD} (io), 42 P5_4/~{HLDA} (io), 43 P5_3/BCLK (io), 44 P5_2/~{RD} (io), 45 P5_1/~{WRH}/~{BHE} (io), 46 P5_0/~{WRL}/~{WR} (io), 47 P4_7/~{CS}3 (io), 48 P4_6/~{CS}2 (io), 49 P4_5/~{CS}1 (io), 50 P4_4/~{CS}0 (io), 51 P4_3/A19 (io), 52 P4_2/A18 (io), 53 P4_1/A17 (io), 54 P4_0/A16 (io), 55 P3_7/A15 (io), 56 P3_6/A14 (io), 57 P3_5/A13 (io), 58 P3_4/A12 (io), 59 P3_3/A11 (io), 60 P3_2/A10 (io), 61 P3_1/A9 (io), 63 P3_0/A8 (io), 65 P2_7/A7 (io), 66 P2_6/A6 (io), 67 P2_5/A5 (io), 68 P2_4/A4 (io), 69 P2_3/A3 (io), 70 P2_2/A2 (io), 71 P2_1/A1 (io), 72 P2_0/A0 (io), 73 P1_7/D15 (io), 74 P1_6/~{INT}4/D14 (io), 75 P1_5/D13/~{INT}3 (io), 76 P1_4/D12 (io), 77 P1_3/D11 (io), 78 P1_2/D10 (io), 79 P1_1/D9 (io), 80 P1_0/D8 (io), 81 P0_7/AN0_7/D7 (io), 82 P0_6/AN0_6/D6 (io), 83 P0_5/AN0_5/D5 (io), 84 P0_4/AN0_4/D4 (io), 85 P0_3/AN0_3/D3 (io), 86 P0_2/AN0_2/D2 (io), 87 P0_1/AN0_1/D1 (io), 88 P0_0/AN0_0/D0 (io), 89 P10_7/~{KI}3/AN_7 (io), 90 P10_6/~{KI}2/AN_6 (io), 91 P10_5/~{KI}1/AN_5 (io), 92 P10_4/~{KI}0/AN_4 (io), 93 P10_3/AN_3 (io), 94 P10_2/AN_2 (io), 95 P10_1/AN_1 (io), 97 P10_0/AN_0 (io), 98 VREF (in), 100 P9_7/~{ADTRG} (io)
part B pins: 14 VSS (power), 16 VCC (power), 62 VCC2 (power), 64 VSS (power), 96 AVSS (power), 99 AVCC (power)

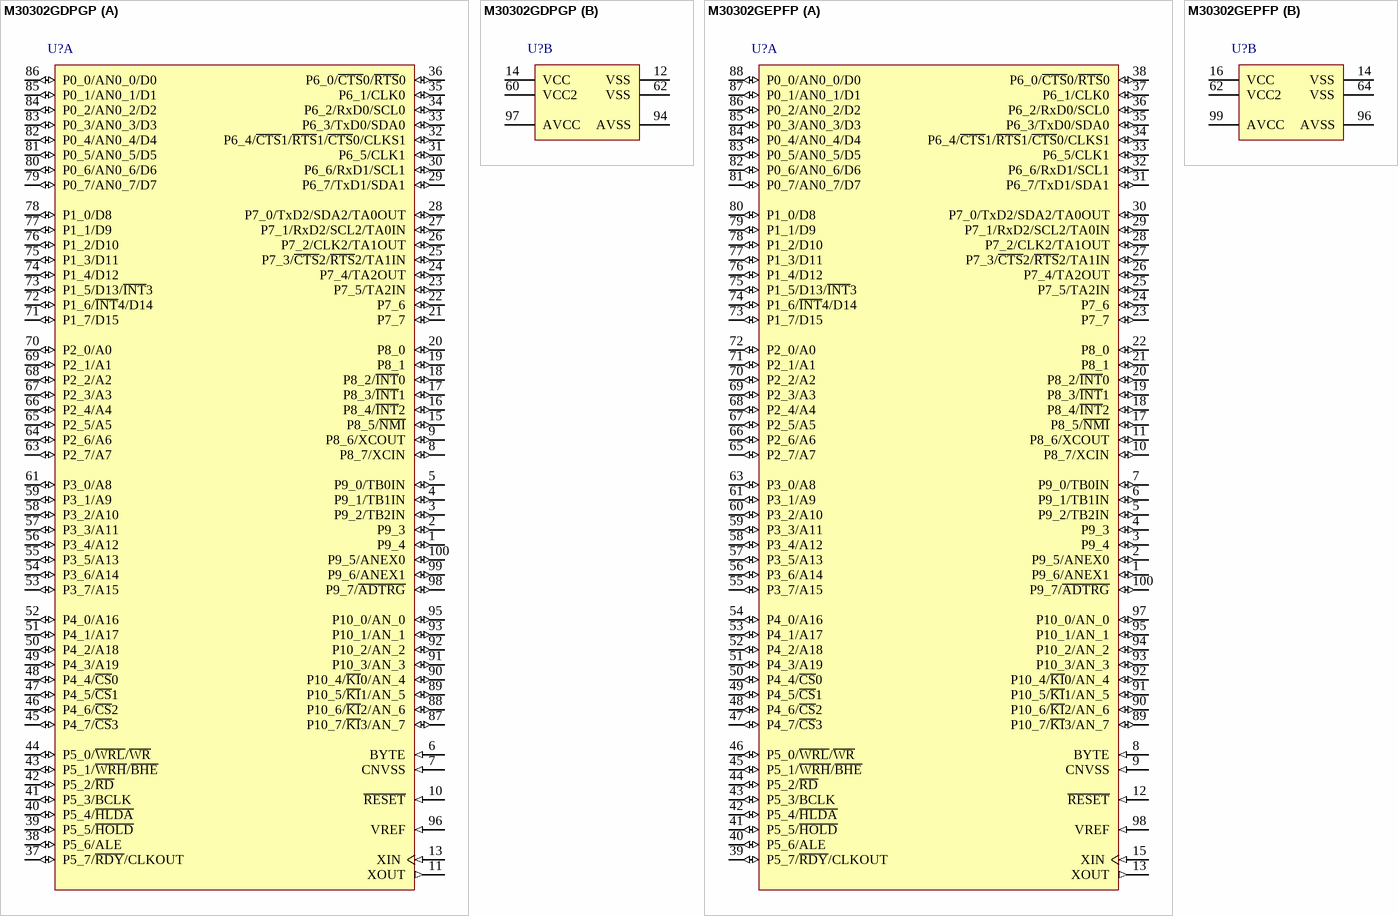
[diagram p63: symbols M30302GDPGP to M30302GEPFP]